# Altium integrated library Actel Axcelerator.IntLib: 162 symbols (part 1 of 42)
Pins are listed as number, name and electrical type; pins without a type are passive.

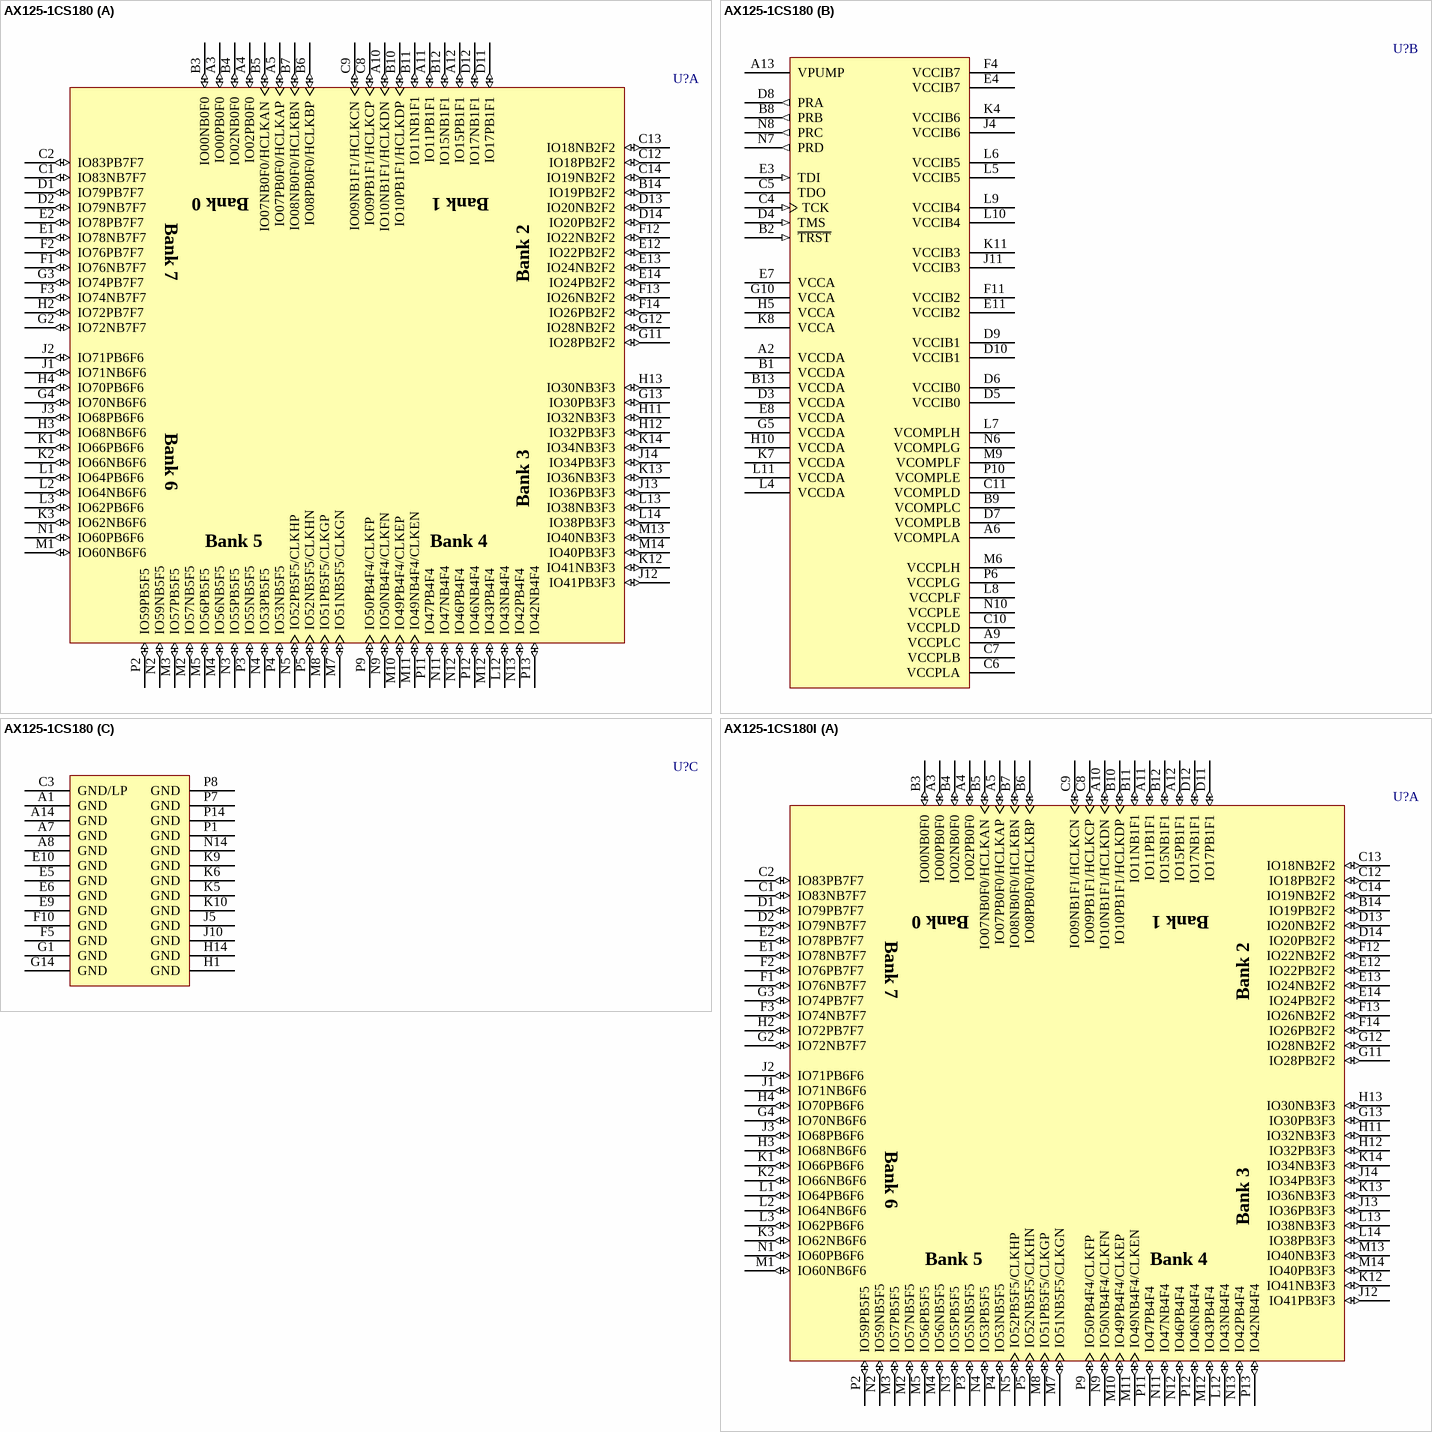
[diagram p0: symbols AX125-1CS180 to AX125-1CS180I]

## AX125-1CS180
designator U?
Axcelerator AX125 FPGA, 98 User I/Os, 180-Pin CSP, Speed Grade 1, Commercial Grade; DatasheetVersion: v2.8, Oct-2009; PackageVersion: ver11.2, Nov-2009; PackageReference: CS180; PackageDescription: 180-Ball Chip Scale Package (CS180); Code_JEDEC: MO-205-BF; ComponentLink1Description: Manufacturer URL; ComponentLink1URL: http://www.actel.com/; ComponentLink2Description: Axcelerator Datasheet; ComponentLink2URL: http://www.actel.com/documents/AX_DS.pdf; ComponentLink3Description: Package Mechanical Drawings; ComponentLink3URL: http://www.actel.com/documents/PckgMechDrwngs.pdf; ComponentLink4Description: Axcelerator Documents; ComponentLink4URL: http://www.actel.com/products/axcelerator/docs.aspx
footprint CS180 (BGA, 180-Leads, Body 13x13mm, Pitch 0.8mm)
part A pins: A3 IO00PB0F0 (io), A4 IO02PB0F0 (io), A5 IO07PB0F0/HCLKAP (io), A10 IO10NB1F1/HCLKDN (io), A11 IO11PB1F1 (io), A12 IO15PB1F1 (io), B3 IO00NB0F0 (io), B4 IO02NB0F0 (io), B5 IO07NB0F0/HCLKAN (io), B6 IO08PB0F0/HCLKBP (io), B7 IO08NB0F0/HCLKBN (io), B10 IO10PB1F1/HCLKDP (io), B11 IO11NB1F1 (io), B12 IO15NB1F1 (io), B14 IO19PB2F2 (io), C1 IO83NB7F7 (io), C2 IO83PB7F7 (io), C8 IO09PB1F1/HCLKCP (io), C9 IO09NB1F1/HCLKCN (io), C12 IO18PB2F2 (io), C13 IO18NB2F2 (io), C14 IO19NB2F2 (io), D1 IO79PB7F7 (io), D2 IO79NB7F7 (io), D11 IO17PB1F1 (io), D12 IO17NB1F1 (io), D13 IO20NB2F2 (io), D14 IO20PB2F2 (io), E1 IO78NB7F7 (io), E2 IO78PB7F7 (io), E12 IO22PB2F2 (io), E13 IO24NB2F2 (io), E14 IO24PB2F2 (io), F1 IO76NB7F7 (io), F2 IO76PB7F7 (io), F3 IO74NB7F7 (io), F12 IO22NB2F2 (io), F13 IO26NB2F2 (io), F14 IO26PB2F2 (io), G2 IO72NB7F7 (io), G3 IO74PB7F7 (io), G4 IO70NB6F6 (io), G11 IO28PB2F2 (io), G12 IO28NB2F2 (io), G13 IO30PB3F3 (io), H2 IO72PB7F7 (io), H3 IO68NB6F6 (io), H4 IO70PB6F6 (io), H11 IO32NB3F3 (io), H12 IO32PB3F3 (io), H13 IO30NB3F3 (io), J1 IO71NB6F6 (io), J2 IO71PB6F6 (io), J3 IO68PB6F6 (io), J12 IO41PB3F3 (io), J13 IO36PB3F3 (io), J14 IO34PB3F3 (io), K1 IO66PB6F6 (io), K2 IO66NB6F6 (io), K3 IO62NB6F6 (io), K12 IO41NB3F3 (io), K13 IO36NB3F3 (io), K14 IO34NB3F3 (io), L1 IO64PB6F6 (io), L2 IO64NB6F6 (io), L3 IO62PB6F6 (io), L12 IO43NB4F4 (io), L13 IO38NB3F3 (io), L14 IO38PB3F3 (io), M1 IO60NB6F6 (io), M2 IO57NB5F5 (io), M3 IO57PB5F5 (io), M4 IO56NB5F5 (io), M5 IO56PB5F5 (io), M7 IO51NB5F5/CLKGN (io), M8 IO51PB5F5/CLKGP (io), M10 IO49PB4F4/CLKEP (io), M11 IO49NB4F4/CLKEN (io), M12 IO43PB4F4 (io), M13 IO40NB3F3 (io), M14 IO40PB3F3 (io), N1 IO60PB6F6 (io), N2 IO59NB5F5 (io), N3 IO55PB5F5 (io), N4 IO53PB5F5 (io), N5 IO52PB5F5/CLKHP (io), N9 IO50NB4F4/CLKFN (io), N11 IO47NB4F4 (io), N12 IO46PB4F4 (io), N13 IO42PB4F4 (io), P2 IO59PB5F5 (io), P3 IO55NB5F5 (io), P4 IO53NB5F5 (io), P5 IO52NB5F5/CLKHN (io), P9 IO50PB4F4/CLKFP (io), P11 IO47PB4F4 (io), P12 IO46NB4F4 (io), P13 IO42NB4F4 (io)
part B pins: A2 VCCDA (power), A6 VCOMPLA (power), A9 VCCPLC (power), A13 VPUMP (power), B1 VCCDA (power), B2 ~{TRST} (in), B8 PRB (out), B9 VCOMPLC (power), B13 VCCDA (power), C4 TCK (in), C5 TDO (hiz), C6 VCCPLA (power), C7 VCCPLB (power), C10 VCCPLD (power), C11 VCOMPLD (power), D3 VCCDA (power), D4 TMS (in), D5 VCCIB0 (power), D6 VCCIB0 (power), D7 VCOMPLB (power), D8 PRA (out), D9 VCCIB1 (power), D10 VCCIB1 (power), E3 TDI (in), E4 VCCIB7 (power), E7 VCCA (power), E8 VCCDA (power), E11 VCCIB2 (power), F4 VCCIB7 (power), F11 VCCIB2 (power), G5 VCCDA (power), G10 VCCA (power), H5 VCCA (power), H10 VCCDA (power), J4 VCCIB6 (power), J11 VCCIB3 (power), K4 VCCIB6 (power), K7 VCCDA (power), K8 VCCA (power), K11 VCCIB3 (power), L4 VCCDA (power), L5 VCCIB5 (power), L6 VCCIB5 (power), L7 VCOMPLH (power), L8 VCCPLF (power), L9 VCCIB4 (power), L10 VCCIB4 (power), L11 VCCDA (power), M6 VCCPLH (power), M9 VCOMPLF (power), N6 VCOMPLG (power), N7 PRD (out), N8 PRC (out), N10 VCCPLE (power), P6 VCCPLG (power), P10 VCOMPLE (power)
part C pins: A1 GND (power), A7 GND (power), A8 GND (power), A14 GND (power), C3 GND/LP (power), E5 GND (power), E6 GND (power), E9 GND (power), E10 GND (power), F5 GND (power), F10 GND (power), G1 GND (power), G14 GND (power), H1 GND (power), H14 GND (power), J5 GND (power), J10 GND (power), K5 GND (power), K6 GND (power), K9 GND (power), K10 GND (power), N14 GND (power), P1 GND (power), P7 GND (power), P8 GND (power), P14 GND (power)
part A text: Bank 0; Bank 1; Bank 7; Bank 2; Bank 6; Bank 3; Bank 5; Bank 4

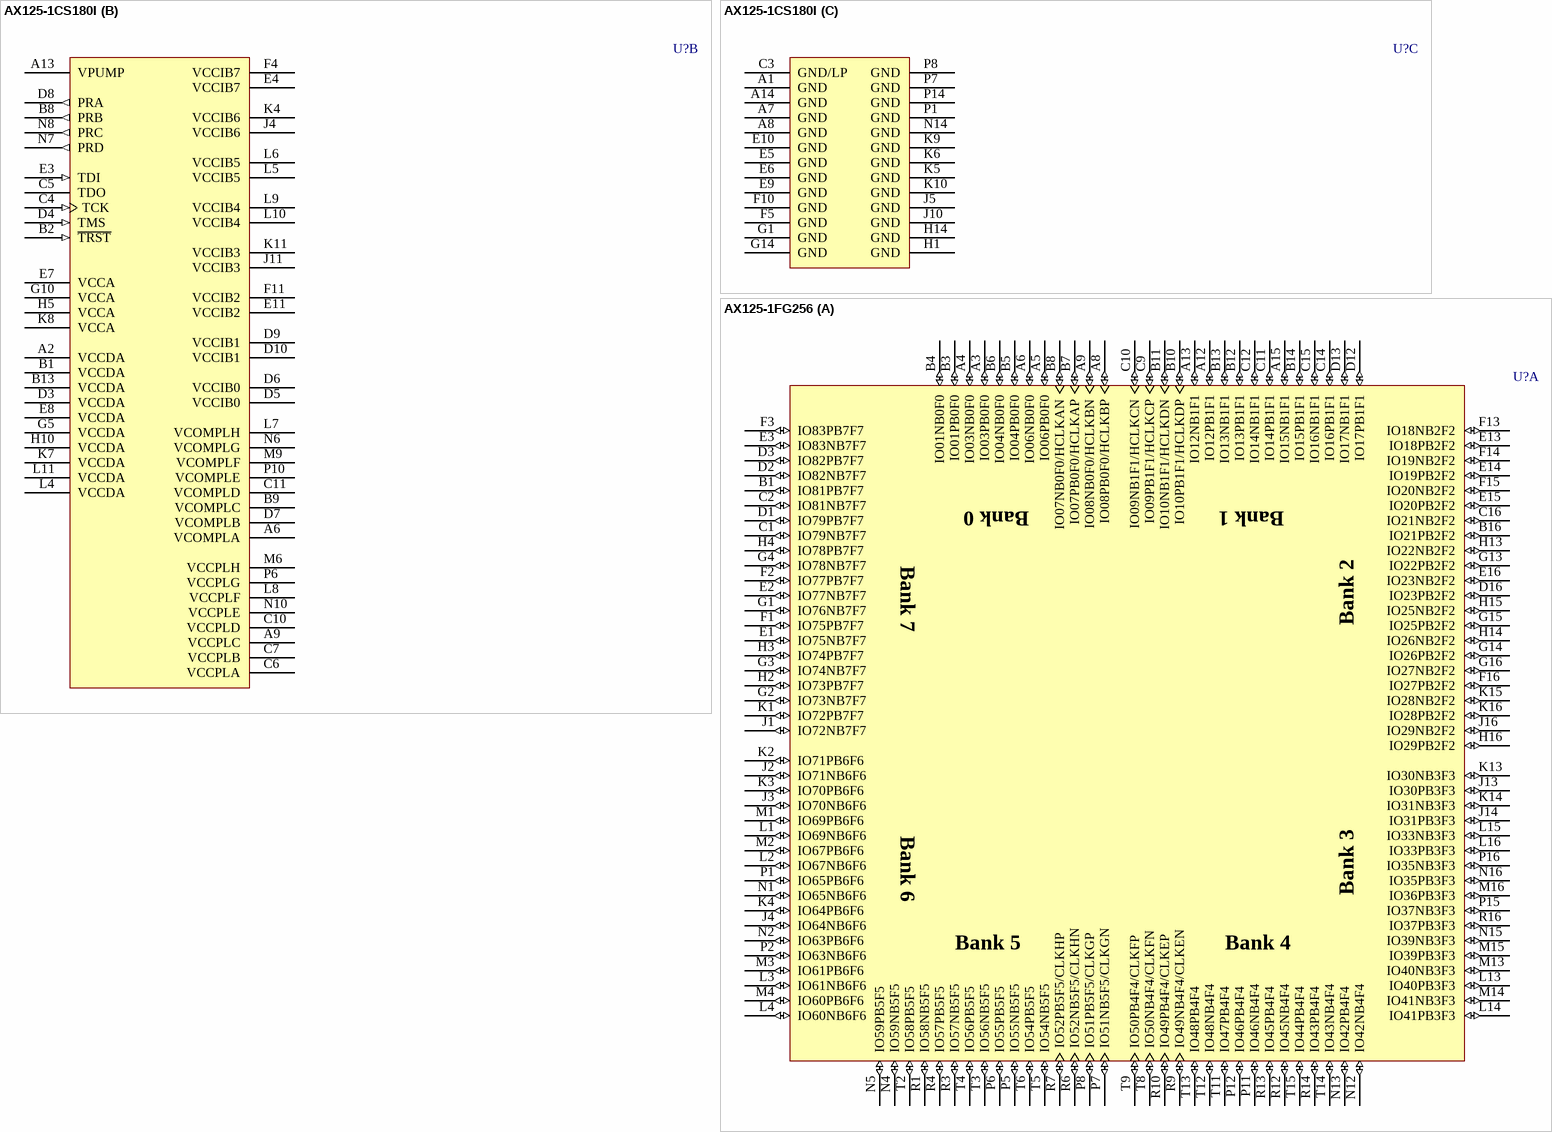
[diagram p1: symbols AX125-1CS180I to AX125-1FG256]

## AX125-1CS180I
designator U?
Axcelerator AX125 FPGA, 98 User I/Os, 180-Pin CSP, Speed Grade 1, Industrial Grade; DatasheetVersion: v2.8, Oct-2009; PackageVersion: ver11.2, Nov-2009; PackageReference: CS180; PackageDescription: 180-Ball Chip Scale Package (CS180); Code_JEDEC: MO-205-BF; ComponentLink1Description: Manufacturer URL; ComponentLink1URL: http://www.actel.com/; ComponentLink2Description: Axcelerator Datasheet; ComponentLink2URL: http://www.actel.com/documents/AX_DS.pdf; ComponentLink3Description: Package Mechanical Drawings; ComponentLink3URL: http://www.actel.com/documents/PckgMechDrwngs.pdf; ComponentLink4Description: Axcelerator Documents; ComponentLink4URL: http://www.actel.com/products/axcelerator/docs.aspx
footprint CS180 (BGA, 180-Leads, Body 13x13mm, Pitch 0.8mm)
part A pins: A3 IO00PB0F0 (io), A4 IO02PB0F0 (io), A5 IO07PB0F0/HCLKAP (io), A10 IO10NB1F1/HCLKDN (io), A11 IO11PB1F1 (io), A12 IO15PB1F1 (io), B3 IO00NB0F0 (io), B4 IO02NB0F0 (io), B5 IO07NB0F0/HCLKAN (io), B6 IO08PB0F0/HCLKBP (io), B7 IO08NB0F0/HCLKBN (io), B10 IO10PB1F1/HCLKDP (io), B11 IO11NB1F1 (io), B12 IO15NB1F1 (io), B14 IO19PB2F2 (io), C1 IO83NB7F7 (io), C2 IO83PB7F7 (io), C8 IO09PB1F1/HCLKCP (io), C9 IO09NB1F1/HCLKCN (io), C12 IO18PB2F2 (io), C13 IO18NB2F2 (io), C14 IO19NB2F2 (io), D1 IO79PB7F7 (io), D2 IO79NB7F7 (io), D11 IO17PB1F1 (io), D12 IO17NB1F1 (io), D13 IO20NB2F2 (io), D14 IO20PB2F2 (io), E1 IO78NB7F7 (io), E2 IO78PB7F7 (io), E12 IO22PB2F2 (io), E13 IO24NB2F2 (io), E14 IO24PB2F2 (io), F1 IO76NB7F7 (io), F2 IO76PB7F7 (io), F3 IO74NB7F7 (io), F12 IO22NB2F2 (io), F13 IO26NB2F2 (io), F14 IO26PB2F2 (io), G2 IO72NB7F7 (io), G3 IO74PB7F7 (io), G4 IO70NB6F6 (io), G11 IO28PB2F2 (io), G12 IO28NB2F2 (io), G13 IO30PB3F3 (io), H2 IO72PB7F7 (io), H3 IO68NB6F6 (io), H4 IO70PB6F6 (io), H11 IO32NB3F3 (io), H12 IO32PB3F3 (io), H13 IO30NB3F3 (io), J1 IO71NB6F6 (io), J2 IO71PB6F6 (io), J3 IO68PB6F6 (io), J12 IO41PB3F3 (io), J13 IO36PB3F3 (io), J14 IO34PB3F3 (io), K1 IO66PB6F6 (io), K2 IO66NB6F6 (io), K3 IO62NB6F6 (io), K12 IO41NB3F3 (io), K13 IO36NB3F3 (io), K14 IO34NB3F3 (io), L1 IO64PB6F6 (io), L2 IO64NB6F6 (io), L3 IO62PB6F6 (io), L12 IO43NB4F4 (io), L13 IO38NB3F3 (io), L14 IO38PB3F3 (io), M1 IO60NB6F6 (io), M2 IO57NB5F5 (io), M3 IO57PB5F5 (io), M4 IO56NB5F5 (io), M5 IO56PB5F5 (io), M7 IO51NB5F5/CLKGN (io), M8 IO51PB5F5/CLKGP (io), M10 IO49PB4F4/CLKEP (io), M11 IO49NB4F4/CLKEN (io), M12 IO43PB4F4 (io), M13 IO40NB3F3 (io), M14 IO40PB3F3 (io), N1 IO60PB6F6 (io), N2 IO59NB5F5 (io), N3 IO55PB5F5 (io), N4 IO53PB5F5 (io), N5 IO52PB5F5/CLKHP (io), N9 IO50NB4F4/CLKFN (io), N11 IO47NB4F4 (io), N12 IO46PB4F4 (io), N13 IO42PB4F4 (io), P2 IO59PB5F5 (io), P3 IO55NB5F5 (io), P4 IO53NB5F5 (io), P5 IO52NB5F5/CLKHN (io), P9 IO50PB4F4/CLKFP (io), P11 IO47PB4F4 (io), P12 IO46NB4F4 (io), P13 IO42NB4F4 (io)
part B pins: A2 VCCDA (power), A6 VCOMPLA (power), A9 VCCPLC (power), A13 VPUMP (power), B1 VCCDA (power), B2 ~{TRST} (in), B8 PRB (out), B9 VCOMPLC (power), B13 VCCDA (power), C4 TCK (in), C5 TDO (hiz), C6 VCCPLA (power), C7 VCCPLB (power), C10 VCCPLD (power), C11 VCOMPLD (power), D3 VCCDA (power), D4 TMS (in), D5 VCCIB0 (power), D6 VCCIB0 (power), D7 VCOMPLB (power), D8 PRA (out), D9 VCCIB1 (power), D10 VCCIB1 (power), E3 TDI (in), E4 VCCIB7 (power), E7 VCCA (power), E8 VCCDA (power), E11 VCCIB2 (power), F4 VCCIB7 (power), F11 VCCIB2 (power), G5 VCCDA (power), G10 VCCA (power), H5 VCCA (power), H10 VCCDA (power), J4 VCCIB6 (power), J11 VCCIB3 (power), K4 VCCIB6 (power), K7 VCCDA (power), K8 VCCA (power), K11 VCCIB3 (power), L4 VCCDA (power), L5 VCCIB5 (power), L6 VCCIB5 (power), L7 VCOMPLH (power), L8 VCCPLF (power), L9 VCCIB4 (power), L10 VCCIB4 (power), L11 VCCDA (power), M6 VCCPLH (power), M9 VCOMPLF (power), N6 VCOMPLG (power), N7 PRD (out), N8 PRC (out), N10 VCCPLE (power), P6 VCCPLG (power), P10 VCOMPLE (power)
part C pins: A1 GND (power), A7 GND (power), A8 GND (power), A14 GND (power), C3 GND/LP (power), E5 GND (power), E6 GND (power), E9 GND (power), E10 GND (power), F5 GND (power), F10 GND (power), G1 GND (power), G14 GND (power), H1 GND (power), H14 GND (power), J5 GND (power), J10 GND (power), K5 GND (power), K6 GND (power), K9 GND (power), K10 GND (power), N14 GND (power), P1 GND (power), P7 GND (power), P8 GND (power), P14 GND (power)
part A text: Bank 0; Bank 1; Bank 7; Bank 2; Bank 6; Bank 3; Bank 5; Bank 4

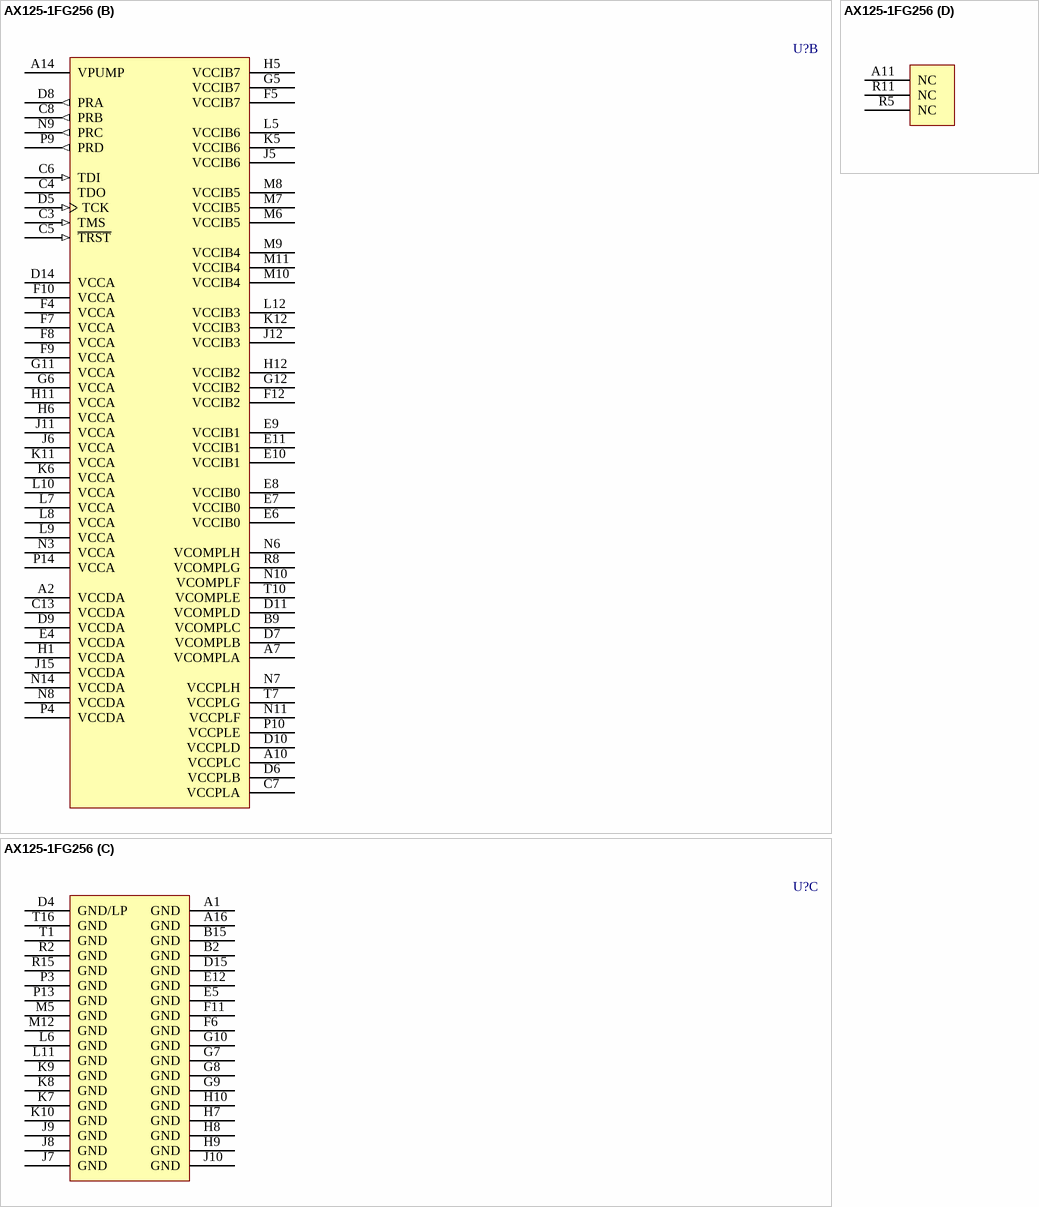
[diagram p2: symbol AX125-1FG256]

## AX125-1FG256
designator U?
Axcelerator AX125 FPGA, 138 User I/Os, 256-Pin FBGA, Speed Grade 1, Commercial Grade; DatasheetVersion: v2.8, Oct-2009; PackageVersion: rev39, Aug-2010; PackageReference: FG256; PackageDescription: 256-Ball Fine Pitch Plastic Ball Grid Array 1.00 mm Pitch (FG256); Code_JEDEC: MO-192-DAF-1; ComponentLink1Description: Manufacturer URL; ComponentLink1URL: http://www.actel.com/; ComponentLink2Description: Axcelerator Datasheet; ComponentLink2URL: http://www.actel.com/documents/AX_DS.pdf; ComponentLink3Description: Package Mechanical Drawings; ComponentLink3URL: http://www.actel.com/documents/PckgMechDrwngs.pdf; ComponentLink4Description: Axcelerator Documents; ComponentLink4URL: http://www.actel.com/products/axcelerator/docs.aspx
footprint FG256 (BGA, 256-Leads, Body 17x17mm, Pitch 1mm)
part A pins: A3 IO03PB0F0 (io), A4 IO03NB0F0 (io), A5 IO06PB0F0 (io), A6 IO06NB0F0 (io), A8 IO08PB0F0/HCLKBP (io), A9 IO08NB0F0/HCLKBN (io), A12 IO12PB1F1 (io), A13 IO12NB1F1 (io), A15 IO15NB1F1 (io), B1 IO81PB7F7 (io), B3 IO01PB0F0 (io), B4 IO01NB0F0 (io), B5 IO04PB0F0 (io), B6 IO04NB0F0 (io), B7 IO07PB0F0/HCLKAP (io), B8 IO07NB0F0/HCLKAN (io), B10 IO10PB1F1/HCLKDP (io), B11 IO10NB1F1/HCLKDN (io), B12 IO13PB1F1 (io), B13 IO13NB1F1 (io), B14 IO15PB1F1 (io), B16 IO21PB2F2 (io), C1 IO79NB7F7 (io), C2 IO81NB7F7 (io), C9 IO09PB1F1/HCLKCP (io), C10 IO09NB1F1/HCLKCN (io), C11 IO14PB1F1 (io), C12 IO14NB1F1 (io), C14 IO16PB1F1 (io), C15 IO16NB1F1 (io), C16 IO21NB2F2 (io), D1 IO79PB7F7 (io), D2 IO82NB7F7 (io), D3 IO82PB7F7 (io), D12 IO17PB1F1 (io), D13 IO17NB1F1 (io), D16 IO23PB2F2 (io), E1 IO75NB7F7 (io), E2 IO77NB7F7 (io), E3 IO83NB7F7 (io), E13 IO18PB2F2 (io), E14 IO19PB2F2 (io), E15 IO20PB2F2 (io), E16 IO23NB2F2 (io), F1 IO75PB7F7 (io), F2 IO77PB7F7 (io), F3 IO83PB7F7 (io), F13 IO18NB2F2 (io), F14 IO19NB2F2 (io), F15 IO20NB2F2 (io), F16 IO27PB2F2 (io), G1 IO76NB7F7 (io), G2 IO73NB7F7 (io), G3 IO74NB7F7 (io), G4 IO78NB7F7 (io), G13 IO22PB2F2 (io), G14 IO26PB2F2 (io), G15 IO25PB2F2 (io), G16 IO27NB2F2 (io), H2 IO73PB7F7 (io), H3 IO74PB7F7 (io), H4 IO78PB7F7 (io), H13 IO22NB2F2 (io), H14 IO26NB2F2 (io), H15 IO25NB2F2 (io), H16 IO29PB2F2 (io), J1 IO72NB7F7 (io), J2 IO71NB6F6 (io), J3 IO70NB6F6 (io), J4 IO64NB6F6 (io), J13 IO30PB3F3 (io), J14 IO31PB3F3 (io), J16 IO29NB2F2 (io), K1 IO72PB7F7 (io), K2 IO71PB6F6 (io), K3 IO70PB6F6 (io), K4 IO64PB6F6 (io), K13 IO30NB3F3 (io), K14 IO31NB3F3 (io), K15 IO28NB2F2 (io), K16 IO28PB2F2 (io), L1 IO69NB6F6 (io), L2 IO67NB6F6 (io), L3 IO61NB6F6 (io), L4 IO60NB6F6 (io), L13 IO40PB3F3 (io), L14 IO41PB3F3 (io), L15 IO33NB3F3 (io), L16 IO33PB3F3 (io), M1 IO69PB6F6 (io), M2 IO67PB6F6 (io), M3 IO61PB6F6 (io), M4 IO60PB6F6 (io), M13 IO40NB3F3 (io), M14 IO41NB3F3 (io), M15 IO39PB3F3 (io), M16 IO36PB3F3 (io), N1 IO65NB6F6 (io), N2 IO63PB6F6 (io), N4 IO59NB5F5 (io), N5 IO59PB5F5 (io), N12 IO42NB4F4 (io), N13 IO42PB4F4 (io), N15 IO39NB3F3 (io), N16 IO35PB3F3 (io), P1 IO65PB6F6 (io), P2 IO63NB6F6 (io), P5 IO55NB5F5 (io), P6 IO55PB5F5 (io), P7 IO51NB5F5/CLKGN (io), P8 IO51PB5F5/CLKGP (io), P11 IO46NB4F4 (io), P12 IO46PB4F4 (io), P15 IO37NB3F3 (io), P16 IO35NB3F3 (io), R1 IO58NB5F5 (io), R3 IO57NB5F5 (io), R4 IO57PB5F5 (io), R6 IO52NB5F5/CLKHN (io), R7 IO52PB5F5/CLKHP (io), R9 IO49NB4F4/CLKEN (io), R10 IO49PB4F4/CLKEP (io), R12 IO45NB4F4 (io), R13 IO45PB4F4 (io), R14 IO43PB4F4 (io), R16 IO37PB3F3 (io), T2 IO58PB5F5 (io), T3 IO56NB5F5 (io), T4 IO56PB5F5 (io), T5 IO54NB5F5 (io), T6 IO54PB5F5 (io), T8 IO50NB4F4/CLKFN (io), T9 IO50PB4F4/CLKFP (io), T11 IO47PB4F4 (io), T12 IO48NB4F4 (io), T13 IO48PB4F4 (io), T14 IO43NB4F4 (io), T15 IO44PB4F4 (io)
part B pins: A2 VCCDA (power), A7 VCOMPLA (power), A10 VCCPLC (power), A14 VPUMP (power), B9 VCOMPLC (power), C3 TMS (in), C4 TDO (hiz), C5 ~{TRST} (in), C6 TDI (in), C7 VCCPLA (power), C8 PRB (out), C13 VCCDA (power), D5 TCK (in), D6 VCCPLB (power), D7 VCOMPLB (power), D8 PRA (out), D9 VCCDA (power), D10 VCCPLD (power), D11 VCOMPLD (power), D14 VCCA (power), E4 VCCDA (power), E6 VCCIB0 (power), E7 VCCIB0 (power), E8 VCCIB0 (power), E9 VCCIB1 (power), E10 VCCIB1 (power), E11 VCCIB1 (power), F4 VCCA (power), F5 VCCIB7 (power), F7 VCCA (power), F8 VCCA (power), F9 VCCA (power), F10 VCCA (power), F12 VCCIB2 (power), G5 VCCIB7 (power), G6 VCCA (power), G11 VCCA (power), G12 VCCIB2 (power), H1 VCCDA (power), H5 VCCIB7 (power), H6 VCCA (power), H11 VCCA (power), H12 VCCIB2 (power), J5 VCCIB6 (power), J6 VCCA (power), J11 VCCA (power), J12 VCCIB3 (power), J15 VCCDA (power), K5 VCCIB6 (power), K6 VCCA (power), K11 VCCA (power), K12 VCCIB3 (power), L5 VCCIB6 (power), L7 VCCA (power), L8 VCCA (power), L9 VCCA (power), L10 VCCA (power), L12 VCCIB3 (power), M6 VCCIB5 (power), M7 VCCIB5 (power), M8 VCCIB5 (power), M9 VCCIB4 (power), M10 VCCIB4 (power), M11 VCCIB4 (power), N3 VCCA (power), N6 VCOMPLH (power), N7 VCCPLH (power), N8 VCCDA (power), N9 PRC (out), N10 VCOMPLF (power), N11 VCCPLF (power), N14 VCCDA (power), P4 VCCDA (power), P9 PRD (out), P10 VCCPLE (power), P14 VCCA (power), R8 VCOMPLG (power), T7 VCCPLG (power), T10 VCOMPLE (power)
part C pins: A1 GND (power), A16 GND (power), B2 GND (power), B15 GND (power), D4 GND/LP (power), D15 GND (power), E5 GND (power), E12 GND (power), F6 GND (power), F11 GND (power), G7 GND (power), G8 GND (power), G9 GND (power), G10 GND (power), H7 GND (power), H8 GND (power), H9 GND (power), H10 GND (power), J7 GND (power), J8 GND (power), J9 GND (power), J10 GND (power), K7 GND (power), K8 GND (power), K9 GND (power), K10 GND (power), L6 GND (power), L11 GND (power), M5 GND (power), M12 GND (power), P3 GND (power), P13 GND (power), R2 GND (power), R15 GND (power), T1 GND (power), T16 GND (power)
part D pins: A11 NC, R5 NC, R11 NC
part A text: Bank 0; Bank 1; Bank 7; Bank 2; Bank 6; Bank 3; Bank 5; Bank 4

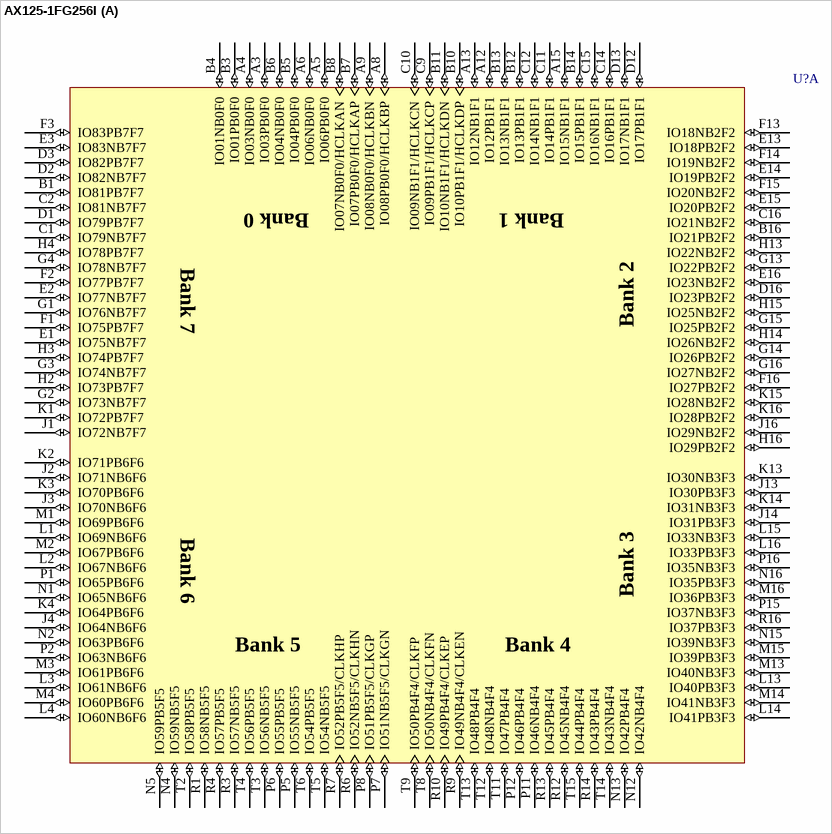
[diagram p3: symbol AX125-1FG256I]

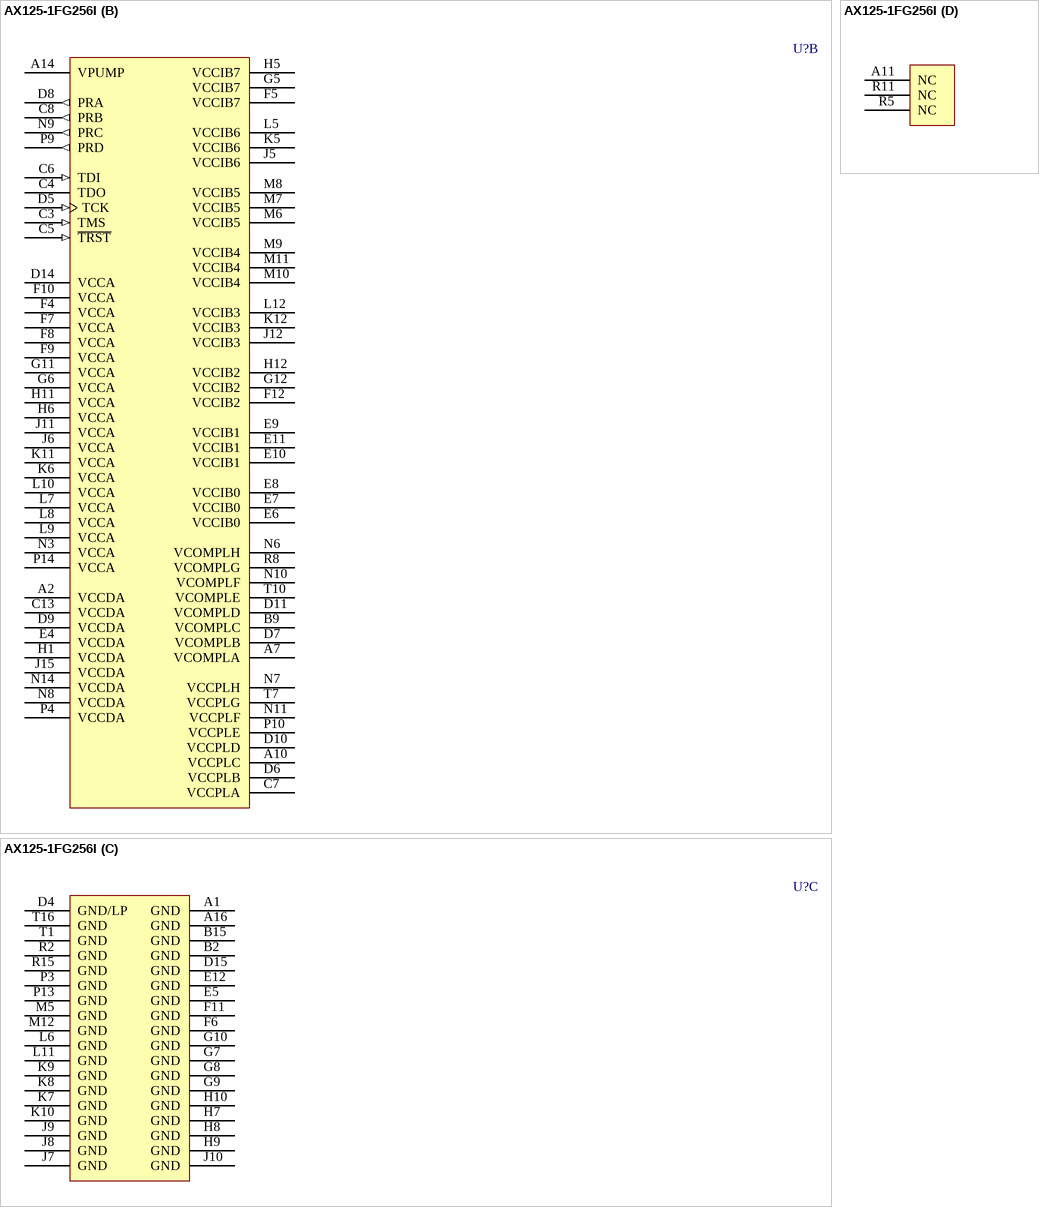
[diagram p4: symbol AX125-1FG256I]

## AX125-1FG256I
designator U?
Axcelerator AX125 FPGA, 138 User I/Os, 256-Pin FBGA, Speed Grade 1, Industrial Grade; DatasheetVersion: v2.8, Oct-2009; PackageVersion: rev39, Aug-2010; PackageReference: FG256; PackageDescription: 256-Ball Fine Pitch Plastic Ball Grid Array 1.00 mm Pitch (FG256); Code_JEDEC: MO-192-DAF-1; ComponentLink1Description: Manufacturer URL; ComponentLink1URL: http://www.actel.com/; ComponentLink2Description: Axcelerator Datasheet; ComponentLink2URL: http://www.actel.com/documents/AX_DS.pdf; ComponentLink3Description: Package Mechanical Drawings; ComponentLink3URL: http://www.actel.com/documents/PckgMechDrwngs.pdf; ComponentLink4Description: Axcelerator Documents; ComponentLink4URL: http://www.actel.com/products/axcelerator/docs.aspx
footprint FG256 (BGA, 256-Leads, Body 17x17mm, Pitch 1mm)
part A pins: A3 IO03PB0F0 (io), A4 IO03NB0F0 (io), A5 IO06PB0F0 (io), A6 IO06NB0F0 (io), A8 IO08PB0F0/HCLKBP (io), A9 IO08NB0F0/HCLKBN (io), A12 IO12PB1F1 (io), A13 IO12NB1F1 (io), A15 IO15NB1F1 (io), B1 IO81PB7F7 (io), B3 IO01PB0F0 (io), B4 IO01NB0F0 (io), B5 IO04PB0F0 (io), B6 IO04NB0F0 (io), B7 IO07PB0F0/HCLKAP (io), B8 IO07NB0F0/HCLKAN (io), B10 IO10PB1F1/HCLKDP (io), B11 IO10NB1F1/HCLKDN (io), B12 IO13PB1F1 (io), B13 IO13NB1F1 (io), B14 IO15PB1F1 (io), B16 IO21PB2F2 (io), C1 IO79NB7F7 (io), C2 IO81NB7F7 (io), C9 IO09PB1F1/HCLKCP (io), C10 IO09NB1F1/HCLKCN (io), C11 IO14PB1F1 (io), C12 IO14NB1F1 (io), C14 IO16PB1F1 (io), C15 IO16NB1F1 (io), C16 IO21NB2F2 (io), D1 IO79PB7F7 (io), D2 IO82NB7F7 (io), D3 IO82PB7F7 (io), D12 IO17PB1F1 (io), D13 IO17NB1F1 (io), D16 IO23PB2F2 (io), E1 IO75NB7F7 (io), E2 IO77NB7F7 (io), E3 IO83NB7F7 (io), E13 IO18PB2F2 (io), E14 IO19PB2F2 (io), E15 IO20PB2F2 (io), E16 IO23NB2F2 (io), F1 IO75PB7F7 (io), F2 IO77PB7F7 (io), F3 IO83PB7F7 (io), F13 IO18NB2F2 (io), F14 IO19NB2F2 (io), F15 IO20NB2F2 (io), F16 IO27PB2F2 (io), G1 IO76NB7F7 (io), G2 IO73NB7F7 (io), G3 IO74NB7F7 (io), G4 IO78NB7F7 (io), G13 IO22PB2F2 (io), G14 IO26PB2F2 (io), G15 IO25PB2F2 (io), G16 IO27NB2F2 (io), H2 IO73PB7F7 (io), H3 IO74PB7F7 (io), H4 IO78PB7F7 (io), H13 IO22NB2F2 (io), H14 IO26NB2F2 (io), H15 IO25NB2F2 (io), H16 IO29PB2F2 (io), J1 IO72NB7F7 (io), J2 IO71NB6F6 (io), J3 IO70NB6F6 (io), J4 IO64NB6F6 (io), J13 IO30PB3F3 (io), J14 IO31PB3F3 (io), J16 IO29NB2F2 (io), K1 IO72PB7F7 (io), K2 IO71PB6F6 (io), K3 IO70PB6F6 (io), K4 IO64PB6F6 (io), K13 IO30NB3F3 (io), K14 IO31NB3F3 (io), K15 IO28NB2F2 (io), K16 IO28PB2F2 (io), L1 IO69NB6F6 (io), L2 IO67NB6F6 (io), L3 IO61NB6F6 (io), L4 IO60NB6F6 (io), L13 IO40PB3F3 (io), L14 IO41PB3F3 (io), L15 IO33NB3F3 (io), L16 IO33PB3F3 (io), M1 IO69PB6F6 (io), M2 IO67PB6F6 (io), M3 IO61PB6F6 (io), M4 IO60PB6F6 (io), M13 IO40NB3F3 (io), M14 IO41NB3F3 (io), M15 IO39PB3F3 (io), M16 IO36PB3F3 (io), N1 IO65NB6F6 (io), N2 IO63PB6F6 (io), N4 IO59NB5F5 (io), N5 IO59PB5F5 (io), N12 IO42NB4F4 (io), N13 IO42PB4F4 (io), N15 IO39NB3F3 (io), N16 IO35PB3F3 (io), P1 IO65PB6F6 (io), P2 IO63NB6F6 (io), P5 IO55NB5F5 (io), P6 IO55PB5F5 (io), P7 IO51NB5F5/CLKGN (io), P8 IO51PB5F5/CLKGP (io), P11 IO46NB4F4 (io), P12 IO46PB4F4 (io), P15 IO37NB3F3 (io), P16 IO35NB3F3 (io), R1 IO58NB5F5 (io), R3 IO57NB5F5 (io), R4 IO57PB5F5 (io), R6 IO52NB5F5/CLKHN (io), R7 IO52PB5F5/CLKHP (io), R9 IO49NB4F4/CLKEN (io), R10 IO49PB4F4/CLKEP (io), R12 IO45NB4F4 (io), R13 IO45PB4F4 (io), R14 IO43PB4F4 (io), R16 IO37PB3F3 (io), T2 IO58PB5F5 (io), T3 IO56NB5F5 (io), T4 IO56PB5F5 (io), T5 IO54NB5F5 (io), T6 IO54PB5F5 (io), T8 IO50NB4F4/CLKFN (io), T9 IO50PB4F4/CLKFP (io), T11 IO47PB4F4 (io), T12 IO48NB4F4 (io), T13 IO48PB4F4 (io), T14 IO43NB4F4 (io), T15 IO44PB4F4 (io)
part B pins: A2 VCCDA (power), A7 VCOMPLA (power), A10 VCCPLC (power), A14 VPUMP (power), B9 VCOMPLC (power), C3 TMS (in), C4 TDO (hiz), C5 ~{TRST} (in), C6 TDI (in), C7 VCCPLA (power), C8 PRB (out), C13 VCCDA (power), D5 TCK (in), D6 VCCPLB (power), D7 VCOMPLB (power), D8 PRA (out), D9 VCCDA (power), D10 VCCPLD (power), D11 VCOMPLD (power), D14 VCCA (power), E4 VCCDA (power), E6 VCCIB0 (power), E7 VCCIB0 (power), E8 VCCIB0 (power), E9 VCCIB1 (power), E10 VCCIB1 (power), E11 VCCIB1 (power), F4 VCCA (power), F5 VCCIB7 (power), F7 VCCA (power), F8 VCCA (power), F9 VCCA (power), F10 VCCA (power), F12 VCCIB2 (power), G5 VCCIB7 (power), G6 VCCA (power), G11 VCCA (power), G12 VCCIB2 (power), H1 VCCDA (power), H5 VCCIB7 (power), H6 VCCA (power), H11 VCCA (power), H12 VCCIB2 (power), J5 VCCIB6 (power), J6 VCCA (power), J11 VCCA (power), J12 VCCIB3 (power), J15 VCCDA (power), K5 VCCIB6 (power), K6 VCCA (power), K11 VCCA (power), K12 VCCIB3 (power), L5 VCCIB6 (power), L7 VCCA (power), L8 VCCA (power), L9 VCCA (power), L10 VCCA (power), L12 VCCIB3 (power), M6 VCCIB5 (power), M7 VCCIB5 (power), M8 VCCIB5 (power), M9 VCCIB4 (power), M10 VCCIB4 (power), M11 VCCIB4 (power), N3 VCCA (power), N6 VCOMPLH (power), N7 VCCPLH (power), N8 VCCDA (power), N9 PRC (out), N10 VCOMPLF (power), N11 VCCPLF (power), N14 VCCDA (power), P4 VCCDA (power), P9 PRD (out), P10 VCCPLE (power), P14 VCCA (power), R8 VCOMPLG (power), T7 VCCPLG (power), T10 VCOMPLE (power)
part C pins: A1 GND (power), A16 GND (power), B2 GND (power), B15 GND (power), D4 GND/LP (power), D15 GND (power), E5 GND (power), E12 GND (power), F6 GND (power), F11 GND (power), G7 GND (power), G8 GND (power), G9 GND (power), G10 GND (power), H7 GND (power), H8 GND (power), H9 GND (power), H10 GND (power), J7 GND (power), J8 GND (power), J9 GND (power), J10 GND (power), K7 GND (power), K8 GND (power), K9 GND (power), K10 GND (power), L6 GND (power), L11 GND (power), M5 GND (power), M12 GND (power), P3 GND (power), P13 GND (power), R2 GND (power), R15 GND (power), T1 GND (power), T16 GND (power)
part D pins: A11 NC, R5 NC, R11 NC
part A text: Bank 0; Bank 1; Bank 7; Bank 2; Bank 6; Bank 3; Bank 5; Bank 4

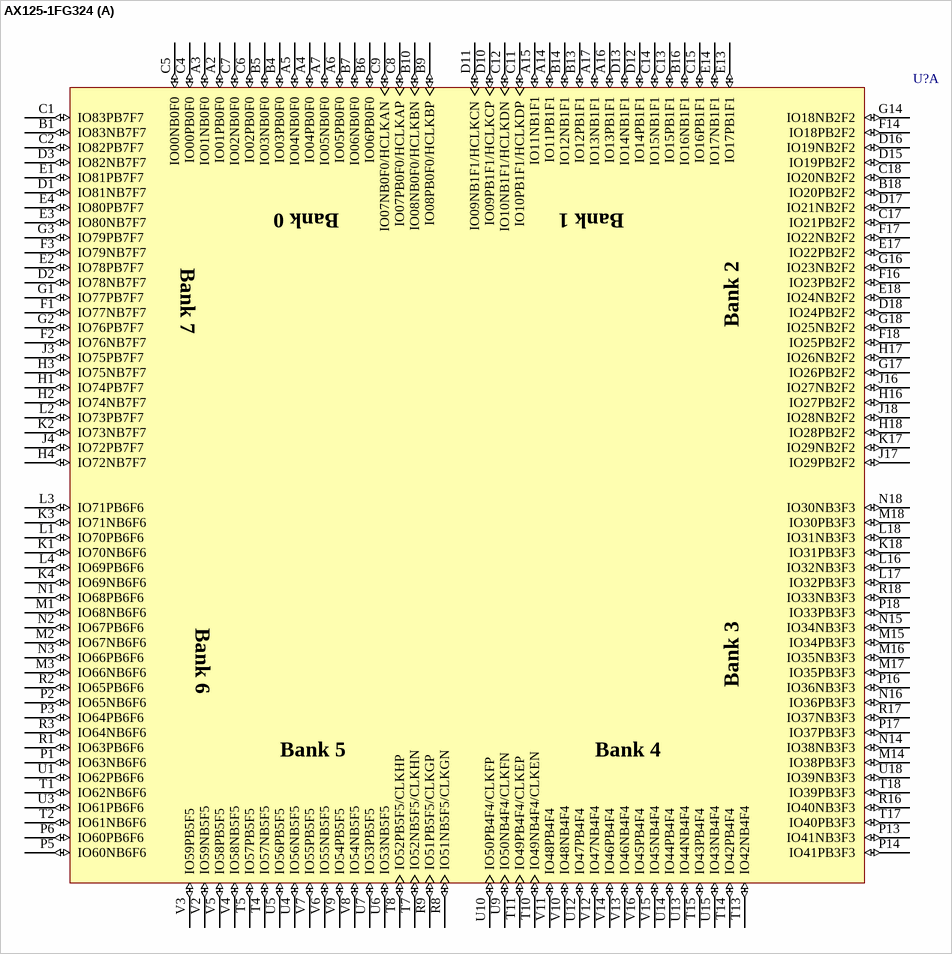
[diagram p5: symbol AX125-1FG324]

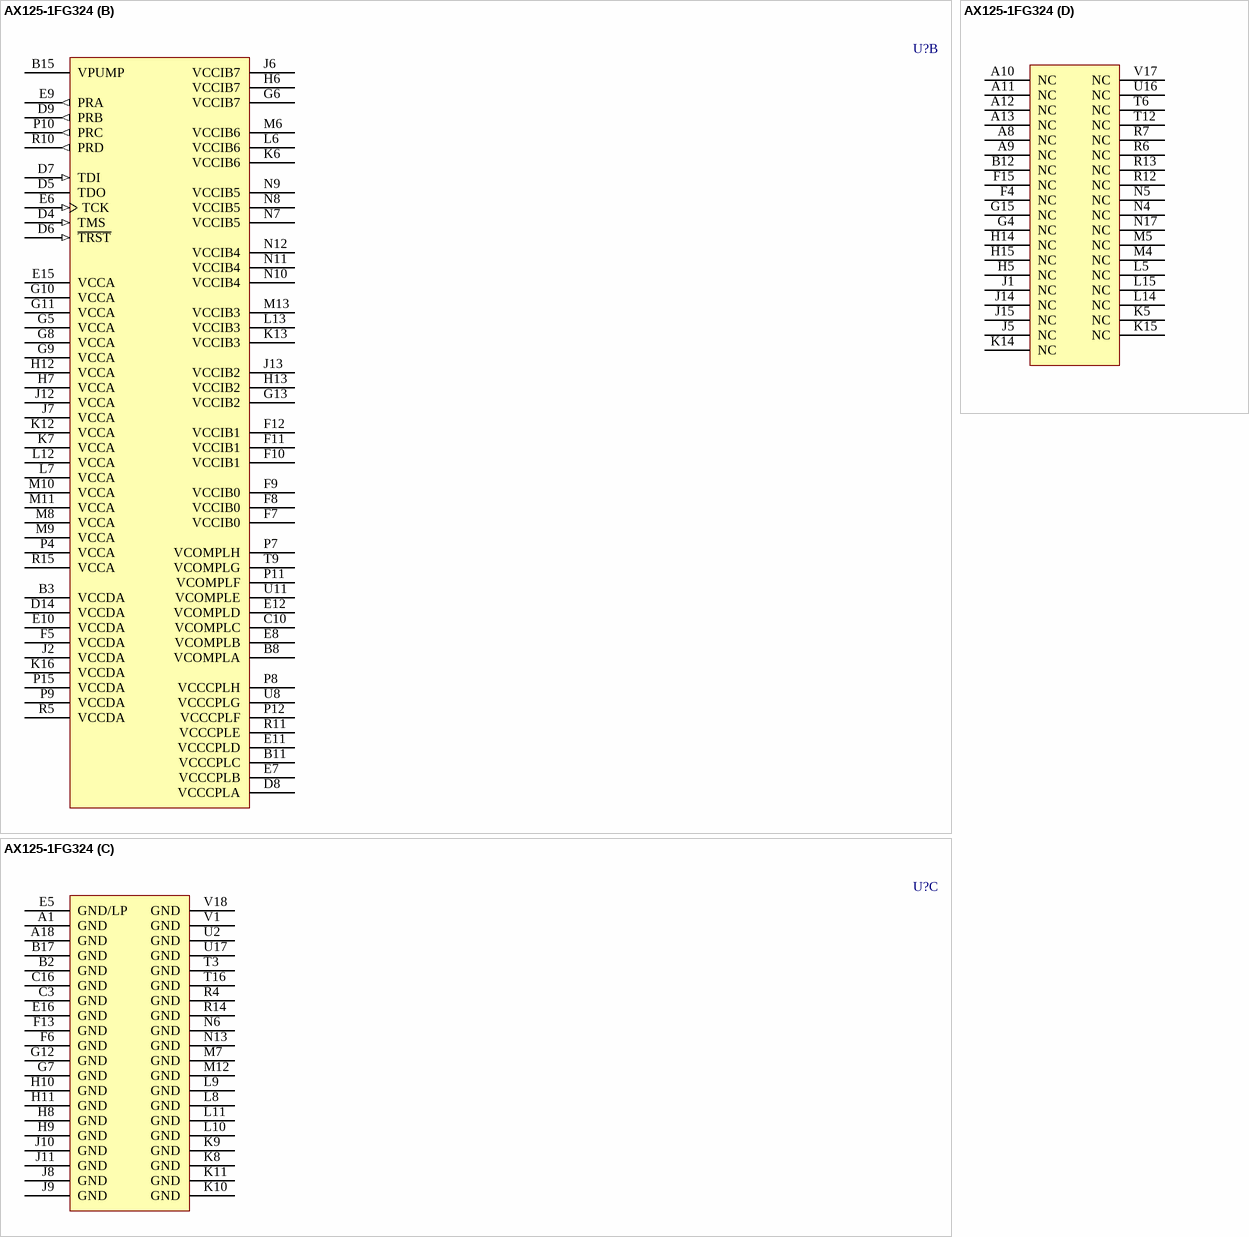
[diagram p6: symbol AX125-1FG324]

## AX125-1FG324
designator U?
Axcelerator AX125 FPGA, 168 User I/Os, 324-Pin FBGA, Speed Grade 1, Commercial Grade; DatasheetVersion: v2.8, Oct-2009; PackageVersion: rev39, Aug-2010; PackageReference: FG324; PackageDescription: 324-Ball Fine Pitch Plastic Ball Grid Array (FG324); Code_JEDEC: MS-034-AAG-1; Code_IPC: BGA100P18X18-324; ComponentLink1Description: Manufacturer URL; ComponentLink1URL: http://www.actel.com/; ComponentLink2Description: Axcelerator Datasheet; ComponentLink2URL: http://www.actel.com/documents/AX_DS.pdf; ComponentLink3Description: Package Mechanical Drawings; ComponentLink3URL: http://www.actel.com/documents/PckgMechDrwngs.pdf; ComponentLink4Description: Axcelerator Documents; ComponentLink4URL: http://www.actel.com/products/axcelerator/docs.aspx
footprint FG324 (BGA, 324-Leads, Body 19x19mm, Pitch 1mm)
part A pins: A2 IO01PB0F0 (io), A3 IO01NB0F0 (io), A4 IO04PB0F0 (io), A5 IO04NB0F0 (io), A6 IO05PB0F0 (io), A7 IO05NB0F0 (io), A14 IO11PB1F1 (io), A15 IO11NB1F1 (io), A16 IO13PB1F1 (io), A17 IO13NB1F1 (io), B1 IO83NB7F7 (io), B4 IO03PB0F0 (io), B5 IO03NB0F0 (io), B6 IO06PB0F0 (io), B7 IO06NB0F0 (io), B9 IO08PB0F0/HCLKBP (io), B10 IO08NB0F0/HCLKBN (io), B13 IO12PB1F1 (io), B14 IO12NB1F1 (io), B16 IO16NB1F1 (io), B18 IO20PB2F2 (io), C1 IO83PB7F7 (io), C2 IO82PB7F7 (io), C4 IO00PB0F0 (io), C5 IO00NB0F0 (io), C6 IO02PB0F0 (io), C7 IO02NB0F0 (io), C8 IO07PB0F0/HCLKAP (io), C9 IO07NB0F0/HCLKAN (io), C11 IO10PB1F1/HCLKDP (io), C12 IO10NB1F1/HCLKDN (io), C13 IO15PB1F1 (io), C14 IO15NB1F1 (io), C15 IO16PB1F1 (io), C17 IO21PB2F2 (io), C18 IO20NB2F2 (io), D1 IO81NB7F7 (io), D2 IO78NB7F7 (io), D3 IO82NB7F7 (io), D10 IO09PB1F1/HCLKCP (io), D11 IO09NB1F1/HCLKCN (io), D12 IO14PB1F1 (io), D13 IO14NB1F1 (io), D15 IO19PB2F2 (io), D16 IO19NB2F2 (io), D17 IO21NB2F2 (io), D18 IO24PB2F2 (io), E1 IO81PB7F7 (io), E2 IO78PB7F7 (io), E3 IO80NB7F7 (io), E4 IO80PB7F7 (io), E13 IO17PB1F1 (io), E14 IO17NB1F1 (io), E17 IO22PB2F2 (io), E18 IO24NB2F2 (io), F1 IO77NB7F7 (io), F2 IO76NB7F7 (io), F3 IO79NB7F7 (io), F14 IO18PB2F2 (io), F16 IO23PB2F2 (io), F17 IO22NB2F2 (io), F18 IO25PB2F2 (io), G1 IO77PB7F7 (io), G2 IO76PB7F7 (io), G3 IO79PB7F7 (io), G14 IO18NB2F2 (io), G16 IO23NB2F2 (io), G17 IO26PB2F2 (io), G18 IO25NB2F2 (io), H1 IO74PB7F7 (io), H2 IO74NB7F7 (io), H3 IO75NB7F7 (io), H4 IO72NB7F7 (io), H16 IO27PB2F2 (io), H17 IO26NB2F2 (io), H18 IO28PB2F2 (io), J3 IO75PB7F7 (io), J4 IO72PB7F7 (io), J16 IO27NB2F2 (io), J17 IO29PB2F2 (io), J18 IO28NB2F2 (io), K1 IO70NB6F6 (io), K2 IO73NB7F7 (io), K3 IO71NB6F6 (io), K4 IO69NB6F6 (io), K17 IO29NB2F2 (io), K18 IO31PB3F3 (io), L1 IO70PB6F6 (io), L2 IO73PB7F7 (io), L3 IO71PB6F6 (io), L4 IO69PB6F6 (io), L16 IO32NB3F3 (io), L17 IO32PB3F3 (io), L18 IO31NB3F3 (io), M1 IO68NB6F6 (io), M2 IO67NB6F6 (io), M3 IO66NB6F6 (io), M14 IO38PB3F3 (io), M15 IO34PB3F3 (io), M16 IO35NB3F3 (io), M17 IO35PB3F3 (io), M18 IO30PB3F3 (io), N1 IO68PB6F6 (io), N2 IO67PB6F6 (io), N3 IO66PB6F6 (io), N14 IO38NB3F3 (io), N15 IO34NB3F3 (io), N16 IO36PB3F3 (io), N18 IO30NB3F3 (io), P1 IO63NB6F6 (io), P2 IO65NB6F6 (io), P3 IO64PB6F6 (io), P5 IO60NB6F6 (io), P6 IO60PB6F6 (io), P13 IO41NB3F3 (io), P14 IO41PB3F3 (io), P16 IO36NB3F3 (io), P17 IO37PB3F3 (io), P18 IO33PB3F3 (io), R1 IO63PB6F6 (io), R2 IO65PB6F6 (io), R3 IO64NB6F6 (io), R8 IO51NB5F5/CLKGN (io), R9 IO51PB5F5/CLKGP (io), R16 IO40NB3F3 (io), R17 IO37NB3F3 (io), R18 IO33NB3F3 (io), T1 IO62NB6F6 (io), T2 IO61NB6F6 (io), T4 IO57NB5F5 (io), T5 IO57PB5F5 (io), T7 IO52NB5F5/CLKHN (io), T8 IO52PB5F5/CLKHP (io), T10 IO49NB4F4/CLKEN (io), T11 IO49PB4F4/CLKEP (io), T13 IO42NB4F4 (io), T14 IO42PB4F4 (io), T15 IO43PB4F4 (io), T17 IO40PB3F3 (io), T18 IO39PB3F3 (io), U1 IO62PB6F6 (io), U3 IO61PB6F6 (io), U4 IO56NB5F5 (io), U5 IO56PB5F5 (io), U6 IO53NB5F5 (io), U7 IO53PB5F5 (io), U9 IO50NB4F4/CLKFN (io), U10 IO50PB4F4/CLKFP (io), U12 IO47PB4F4 (io), U13 IO44NB4F4 (io), U14 IO44PB4F4 (io), U15 IO43NB4F4 (io), U18 IO39NB3F3 (io), V2 IO59NB5F5 (io), V3 IO59PB5F5 (io), V4 IO58NB5F5 (io), V5 IO58PB5F5 (io), V6 IO55NB5F5 (io), V7 IO55PB5F5 (io), V8 IO54NB5F5 (io), V9 IO54PB5F5 (io), V10 IO48NB4F4 (io), V11 IO48PB4F4 (io), V12 IO47NB4F4 (io), V13 IO46NB4F4 (io), V14 IO46PB4F4 (io), V15 IO45NB4F4 (io), V16 IO45PB4F4 (io)
part B pins: B3 VCCDA (power), B8 VCOMPLA (power), B11 VCCCPLC (power), B15 VPUMP (power), C10 VCOMPLC (power), D4 TMS (in), D5 TDO (hiz), D6 ~{TRST} (in), D7 TDI (in), D8 VCCCPLA (power), D9 PRB (out), D14 VCCDA (power), E6 TCK (in), E7 VCCCPLB (power), E8 VCOMPLB (power), E9 PRA (out), E10 VCCDA (power), E11 VCCCPLD (power), E12 VCOMPLD (power), E15 VCCA (power), F5 VCCDA (power), F7 VCCIB0 (power), F8 VCCIB0 (power), F9 VCCIB0 (power), F10 VCCIB1 (power), F11 VCCIB1 (power), F12 VCCIB1 (power), G5 VCCA (power), G6 VCCIB7 (power), G8 VCCA (power), G9 VCCA (power), G10 VCCA (power), G11 VCCA (power), G13 VCCIB2 (power), H6 VCCIB7 (power), H7 VCCA (power), H12 VCCA (power), H13 VCCIB2 (power), J2 VCCDA (power), J6 VCCIB7 (power), J7 VCCA (power), J12 VCCA (power), J13 VCCIB2 (power), K6 VCCIB6 (power), K7 VCCA (power), K12 VCCA (power), K13 VCCIB3 (power), K16 VCCDA (power), L6 VCCIB6 (power), L7 VCCA (power), L12 VCCA (power), L13 VCCIB3 (power), M6 VCCIB6 (power), M8 VCCA (power), M9 VCCA (power), M10 VCCA (power), M11 VCCA (power), M13 VCCIB3 (power), N7 VCCIB5 (power), N8 VCCIB5 (power), N9 VCCIB5 (power), N10 VCCIB4 (power), N11 VCCIB4 (power), N12 VCCIB4 (power), P4 VCCA (power), P7 VCOMPLH (power), P8 VCCCPLH (power), P9 VCCDA (power), P10 PRC (out), P11 VCOMPLF (power), P12 VCCCPLF (power), P15 VCCDA (power), R5 VCCDA (power), R10 PRD (out), R11 VCCCPLE (power), R15 VCCA (power), T9 VCOMPLG (power), U8 VCCCPLG (power), U11 VCOMPLE (power)
part C pins: A1 GND (power), A18 GND (power), B2 GND (power), B17 GND (power), C3 GND (power), C16 GND (power), E5 GND/LP (power), E16 GND (power), F6 GND (power), F13 GND (power), G7 GND (power), G12 GND (power), H8 GND (power), H9 GND (power), H10 GND (power), H11 GND (power), J8 GND (power), J9 GND (power), J10 GND (power), J11 GND (power), K8 GND (power), K9 GND (power), K10 GND (power), K11 GND (power), L8 GND (power), L9 GND (power), L10 GND (power), L11 GND (power), M7 GND (power), M12 GND (power), N6 GND (power), N13 GND (power), R4 GND (power), R14 GND (power), T3 GND (power), T16 GND (power), U2 GND (power), U17 GND (power), V1 GND (power), V18 GND (power)
part D pins: A8 NC, A9 NC, A10 NC, A11 NC, A12 NC, A13 NC, B12 NC, F4 NC, F15 NC, G4 NC, G15 NC, H5 NC, H14 NC, H15 NC, J1 NC, J5 NC, J14 NC, J15 NC, K5 NC, K14 NC, K15 NC, L5 NC, L14 NC, L15 NC, M4 NC, M5 NC, N4 NC, N5 NC, N17 NC, R6 NC, R7 NC, R12 NC, R13 NC, T6 NC, T12 NC, U16 NC, V17 NC
part A text: Bank 0; Bank 1; Bank 7; Bank 2; Bank 6; Bank 3; Bank 5; Bank 4

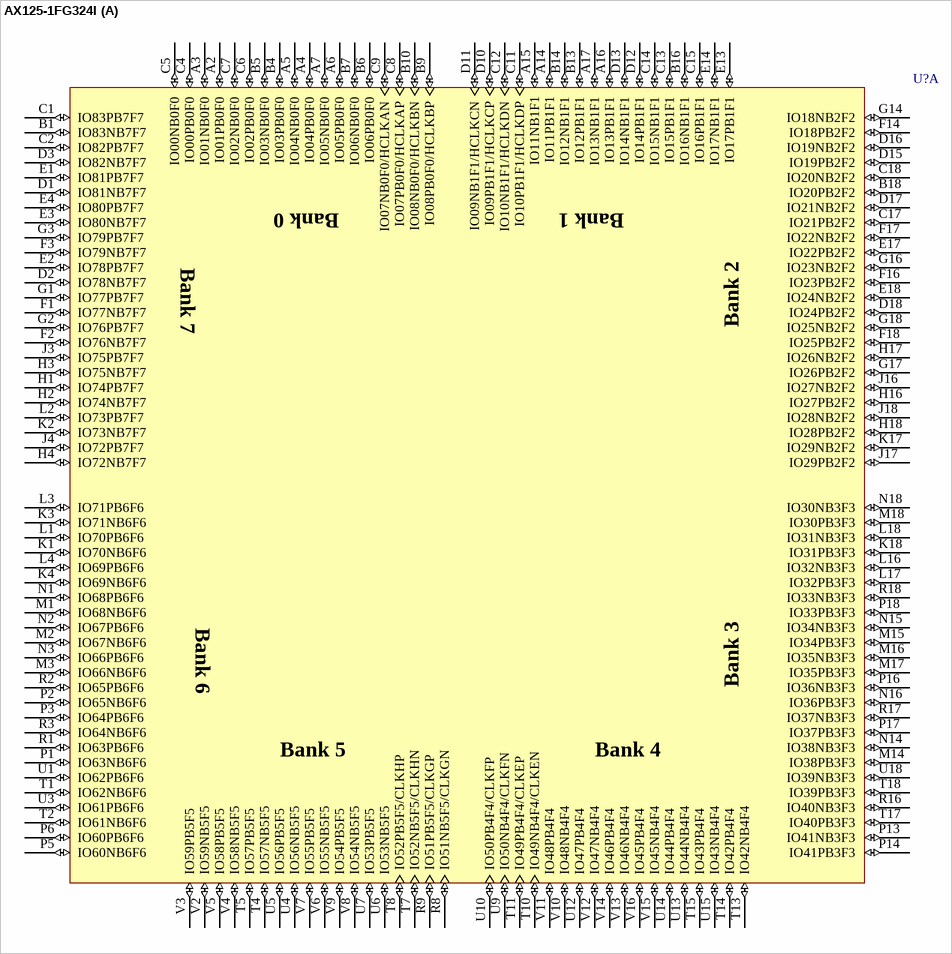
[diagram p7: symbol AX125-1FG324I]

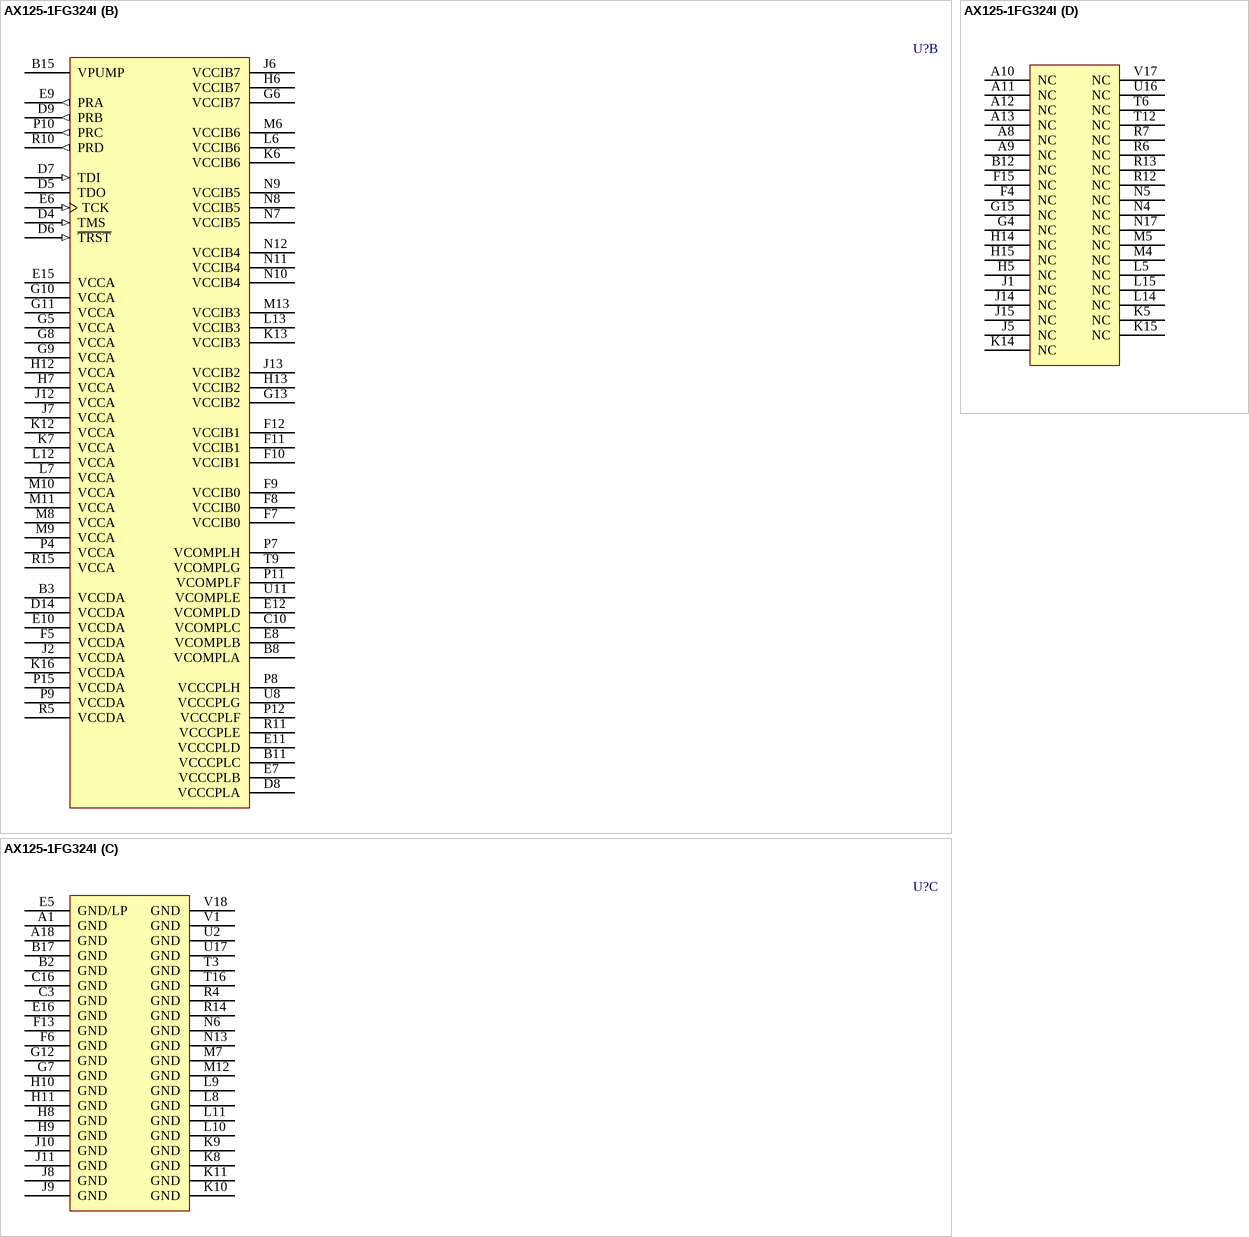
[diagram p8: symbol AX125-1FG324I]

## AX125-1FG324I
designator U?
Axcelerator AX125 FPGA, 168 User I/Os, 324-Pin FBGA, Speed Grade 1, Industrial Grade; DatasheetVersion: v2.8, Oct-2009; PackageVersion: rev39, Aug-2010; PackageReference: FG324; PackageDescription: 324-Ball Fine Pitch Plastic Ball Grid Array (FG324); Code_JEDEC: MS-034-AAG-1; Code_IPC: BGA100P18X18-324; ComponentLink1Description: Manufacturer URL; ComponentLink1URL: http://www.actel.com/; ComponentLink2Description: Axcelerator Datasheet; ComponentLink2URL: http://www.actel.com/documents/AX_DS.pdf; ComponentLink3Description: Package Mechanical Drawings; ComponentLink3URL: http://www.actel.com/documents/PckgMechDrwngs.pdf; ComponentLink4Description: Axcelerator Documents; ComponentLink4URL: http://www.actel.com/products/axcelerator/docs.aspx
footprint FG324 (BGA, 324-Leads, Body 19x19mm, Pitch 1mm)
part A pins: A2 IO01PB0F0 (io), A3 IO01NB0F0 (io), A4 IO04PB0F0 (io), A5 IO04NB0F0 (io), A6 IO05PB0F0 (io), A7 IO05NB0F0 (io), A14 IO11PB1F1 (io), A15 IO11NB1F1 (io), A16 IO13PB1F1 (io), A17 IO13NB1F1 (io), B1 IO83NB7F7 (io), B4 IO03PB0F0 (io), B5 IO03NB0F0 (io), B6 IO06PB0F0 (io), B7 IO06NB0F0 (io), B9 IO08PB0F0/HCLKBP (io), B10 IO08NB0F0/HCLKBN (io), B13 IO12PB1F1 (io), B14 IO12NB1F1 (io), B16 IO16NB1F1 (io), B18 IO20PB2F2 (io), C1 IO83PB7F7 (io), C2 IO82PB7F7 (io), C4 IO00PB0F0 (io), C5 IO00NB0F0 (io), C6 IO02PB0F0 (io), C7 IO02NB0F0 (io), C8 IO07PB0F0/HCLKAP (io), C9 IO07NB0F0/HCLKAN (io), C11 IO10PB1F1/HCLKDP (io), C12 IO10NB1F1/HCLKDN (io), C13 IO15PB1F1 (io), C14 IO15NB1F1 (io), C15 IO16PB1F1 (io), C17 IO21PB2F2 (io), C18 IO20NB2F2 (io), D1 IO81NB7F7 (io), D2 IO78NB7F7 (io), D3 IO82NB7F7 (io), D10 IO09PB1F1/HCLKCP (io), D11 IO09NB1F1/HCLKCN (io), D12 IO14PB1F1 (io), D13 IO14NB1F1 (io), D15 IO19PB2F2 (io), D16 IO19NB2F2 (io), D17 IO21NB2F2 (io), D18 IO24PB2F2 (io), E1 IO81PB7F7 (io), E2 IO78PB7F7 (io), E3 IO80NB7F7 (io), E4 IO80PB7F7 (io), E13 IO17PB1F1 (io), E14 IO17NB1F1 (io), E17 IO22PB2F2 (io), E18 IO24NB2F2 (io), F1 IO77NB7F7 (io), F2 IO76NB7F7 (io), F3 IO79NB7F7 (io), F14 IO18PB2F2 (io), F16 IO23PB2F2 (io), F17 IO22NB2F2 (io), F18 IO25PB2F2 (io), G1 IO77PB7F7 (io), G2 IO76PB7F7 (io), G3 IO79PB7F7 (io), G14 IO18NB2F2 (io), G16 IO23NB2F2 (io), G17 IO26PB2F2 (io), G18 IO25NB2F2 (io), H1 IO74PB7F7 (io), H2 IO74NB7F7 (io), H3 IO75NB7F7 (io), H4 IO72NB7F7 (io), H16 IO27PB2F2 (io), H17 IO26NB2F2 (io), H18 IO28PB2F2 (io), J3 IO75PB7F7 (io), J4 IO72PB7F7 (io), J16 IO27NB2F2 (io), J17 IO29PB2F2 (io), J18 IO28NB2F2 (io), K1 IO70NB6F6 (io), K2 IO73NB7F7 (io), K3 IO71NB6F6 (io), K4 IO69NB6F6 (io), K17 IO29NB2F2 (io), K18 IO31PB3F3 (io), L1 IO70PB6F6 (io), L2 IO73PB7F7 (io), L3 IO71PB6F6 (io), L4 IO69PB6F6 (io), L16 IO32NB3F3 (io), L17 IO32PB3F3 (io), L18 IO31NB3F3 (io), M1 IO68NB6F6 (io), M2 IO67NB6F6 (io), M3 IO66NB6F6 (io), M14 IO38PB3F3 (io), M15 IO34PB3F3 (io), M16 IO35NB3F3 (io), M17 IO35PB3F3 (io), M18 IO30PB3F3 (io), N1 IO68PB6F6 (io), N2 IO67PB6F6 (io), N3 IO66PB6F6 (io), N14 IO38NB3F3 (io), N15 IO34NB3F3 (io), N16 IO36PB3F3 (io), N18 IO30NB3F3 (io), P1 IO63NB6F6 (io), P2 IO65NB6F6 (io), P3 IO64PB6F6 (io), P5 IO60NB6F6 (io), P6 IO60PB6F6 (io), P13 IO41NB3F3 (io), P14 IO41PB3F3 (io), P16 IO36NB3F3 (io), P17 IO37PB3F3 (io), P18 IO33PB3F3 (io), R1 IO63PB6F6 (io), R2 IO65PB6F6 (io), R3 IO64NB6F6 (io), R8 IO51NB5F5/CLKGN (io), R9 IO51PB5F5/CLKGP (io), R16 IO40NB3F3 (io), R17 IO37NB3F3 (io), R18 IO33NB3F3 (io), T1 IO62NB6F6 (io), T2 IO61NB6F6 (io), T4 IO57NB5F5 (io), T5 IO57PB5F5 (io), T7 IO52NB5F5/CLKHN (io), T8 IO52PB5F5/CLKHP (io), T10 IO49NB4F4/CLKEN (io), T11 IO49PB4F4/CLKEP (io), T13 IO42NB4F4 (io), T14 IO42PB4F4 (io), T15 IO43PB4F4 (io), T17 IO40PB3F3 (io), T18 IO39PB3F3 (io), U1 IO62PB6F6 (io), U3 IO61PB6F6 (io), U4 IO56NB5F5 (io), U5 IO56PB5F5 (io), U6 IO53NB5F5 (io), U7 IO53PB5F5 (io), U9 IO50NB4F4/CLKFN (io), U10 IO50PB4F4/CLKFP (io), U12 IO47PB4F4 (io), U13 IO44NB4F4 (io), U14 IO44PB4F4 (io), U15 IO43NB4F4 (io), U18 IO39NB3F3 (io), V2 IO59NB5F5 (io), V3 IO59PB5F5 (io), V4 IO58NB5F5 (io), V5 IO58PB5F5 (io), V6 IO55NB5F5 (io), V7 IO55PB5F5 (io), V8 IO54NB5F5 (io), V9 IO54PB5F5 (io), V10 IO48NB4F4 (io), V11 IO48PB4F4 (io), V12 IO47NB4F4 (io), V13 IO46NB4F4 (io), V14 IO46PB4F4 (io), V15 IO45NB4F4 (io), V16 IO45PB4F4 (io)
part B pins: B3 VCCDA (power), B8 VCOMPLA (power), B11 VCCCPLC (power), B15 VPUMP (power), C10 VCOMPLC (power), D4 TMS (in), D5 TDO (hiz), D6 ~{TRST} (in), D7 TDI (in), D8 VCCCPLA (power), D9 PRB (out), D14 VCCDA (power), E6 TCK (in), E7 VCCCPLB (power), E8 VCOMPLB (power), E9 PRA (out), E10 VCCDA (power), E11 VCCCPLD (power), E12 VCOMPLD (power), E15 VCCA (power), F5 VCCDA (power), F7 VCCIB0 (power), F8 VCCIB0 (power), F9 VCCIB0 (power), F10 VCCIB1 (power), F11 VCCIB1 (power), F12 VCCIB1 (power), G5 VCCA (power), G6 VCCIB7 (power), G8 VCCA (power), G9 VCCA (power), G10 VCCA (power), G11 VCCA (power), G13 VCCIB2 (power), H6 VCCIB7 (power), H7 VCCA (power), H12 VCCA (power), H13 VCCIB2 (power), J2 VCCDA (power), J6 VCCIB7 (power), J7 VCCA (power), J12 VCCA (power), J13 VCCIB2 (power), K6 VCCIB6 (power), K7 VCCA (power), K12 VCCA (power), K13 VCCIB3 (power), K16 VCCDA (power), L6 VCCIB6 (power), L7 VCCA (power), L12 VCCA (power), L13 VCCIB3 (power), M6 VCCIB6 (power), M8 VCCA (power), M9 VCCA (power), M10 VCCA (power), M11 VCCA (power), M13 VCCIB3 (power), N7 VCCIB5 (power), N8 VCCIB5 (power), N9 VCCIB5 (power), N10 VCCIB4 (power), N11 VCCIB4 (power), N12 VCCIB4 (power), P4 VCCA (power), P7 VCOMPLH (power), P8 VCCCPLH (power), P9 VCCDA (power), P10 PRC (out), P11 VCOMPLF (power), P12 VCCCPLF (power), P15 VCCDA (power), R5 VCCDA (power), R10 PRD (out), R11 VCCCPLE (power), R15 VCCA (power), T9 VCOMPLG (power), U8 VCCCPLG (power), U11 VCOMPLE (power)
part C pins: A1 GND (power), A18 GND (power), B2 GND (power), B17 GND (power), C3 GND (power), C16 GND (power), E5 GND/LP (power), E16 GND (power), F6 GND (power), F13 GND (power), G7 GND (power), G12 GND (power), H8 GND (power), H9 GND (power), H10 GND (power), H11 GND (power), J8 GND (power), J9 GND (power), J10 GND (power), J11 GND (power), K8 GND (power), K9 GND (power), K10 GND (power), K11 GND (power), L8 GND (power), L9 GND (power), L10 GND (power), L11 GND (power), M7 GND (power), M12 GND (power), N6 GND (power), N13 GND (power), R4 GND (power), R14 GND (power), T3 GND (power), T16 GND (power), U2 GND (power), U17 GND (power), V1 GND (power), V18 GND (power)
part D pins: A8 NC, A9 NC, A10 NC, A11 NC, A12 NC, A13 NC, B12 NC, F4 NC, F15 NC, G4 NC, G15 NC, H5 NC, H14 NC, H15 NC, J1 NC, J5 NC, J14 NC, J15 NC, K5 NC, K14 NC, K15 NC, L5 NC, L14 NC, L15 NC, M4 NC, M5 NC, N4 NC, N5 NC, N17 NC, R6 NC, R7 NC, R12 NC, R13 NC, T6 NC, T12 NC, U16 NC, V17 NC
part A text: Bank 0; Bank 1; Bank 7; Bank 2; Bank 6; Bank 3; Bank 5; Bank 4

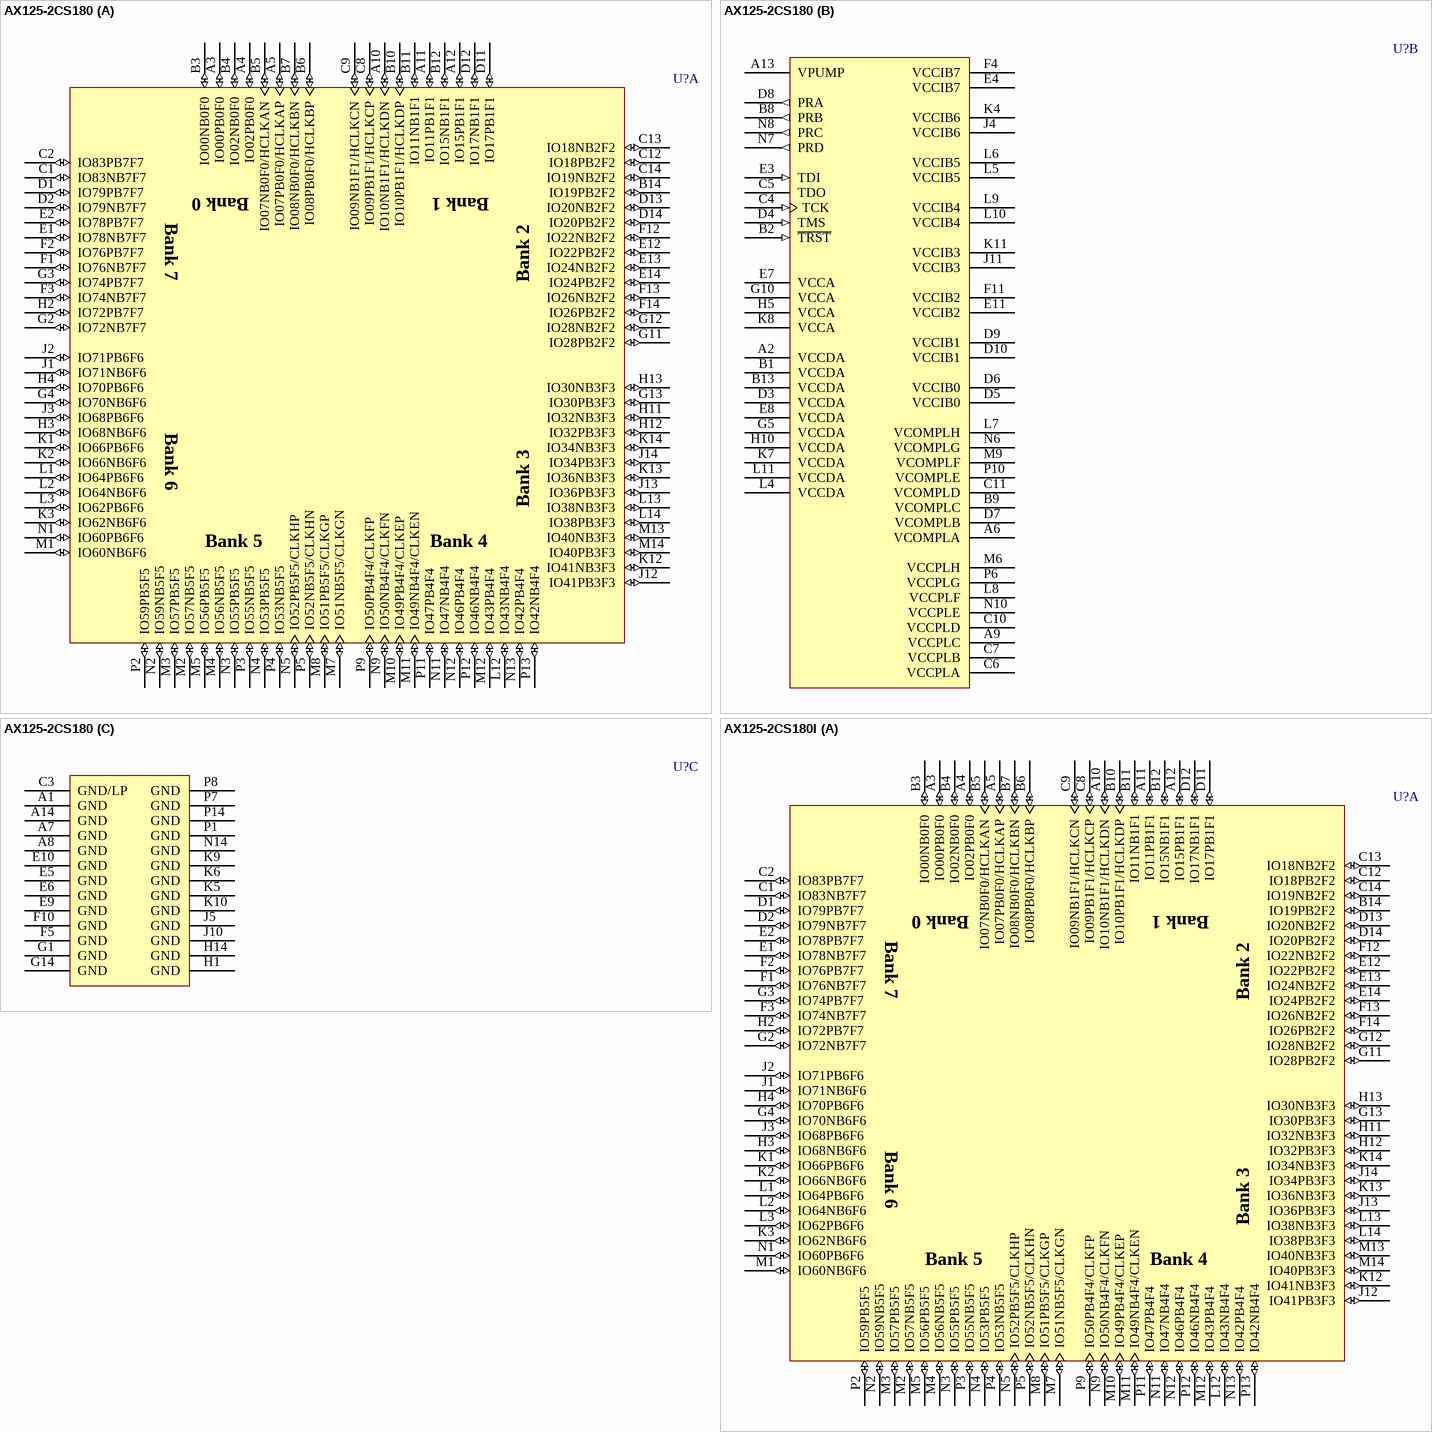
[diagram p9: symbols AX125-2CS180 to AX125-2CS180I]

## AX125-2CS180
designator U?
Axcelerator AX125 FPGA, 98 User I/Os, 180-Pin CSP, Speed Grade 2, Commercial Grade; DatasheetVersion: v2.8, Oct-2009; PackageVersion: ver11.2, Nov-2009; PackageReference: CS180; PackageDescription: 180-Ball Chip Scale Package (CS180); Code_JEDEC: MO-205-BF; ComponentLink1Description: Manufacturer URL; ComponentLink1URL: http://www.actel.com/; ComponentLink2Description: Axcelerator Datasheet; ComponentLink2URL: http://www.actel.com/documents/AX_DS.pdf; ComponentLink3Description: Package Mechanical Drawings; ComponentLink3URL: http://www.actel.com/documents/PckgMechDrwngs.pdf; ComponentLink4Description: Axcelerator Documents; ComponentLink4URL: http://www.actel.com/products/axcelerator/docs.aspx
footprint CS180 (BGA, 180-Leads, Body 13x13mm, Pitch 0.8mm)
part A pins: A3 IO00PB0F0 (io), A4 IO02PB0F0 (io), A5 IO07PB0F0/HCLKAP (io), A10 IO10NB1F1/HCLKDN (io), A11 IO11PB1F1 (io), A12 IO15PB1F1 (io), B3 IO00NB0F0 (io), B4 IO02NB0F0 (io), B5 IO07NB0F0/HCLKAN (io), B6 IO08PB0F0/HCLKBP (io), B7 IO08NB0F0/HCLKBN (io), B10 IO10PB1F1/HCLKDP (io), B11 IO11NB1F1 (io), B12 IO15NB1F1 (io), B14 IO19PB2F2 (io), C1 IO83NB7F7 (io), C2 IO83PB7F7 (io), C8 IO09PB1F1/HCLKCP (io), C9 IO09NB1F1/HCLKCN (io), C12 IO18PB2F2 (io), C13 IO18NB2F2 (io), C14 IO19NB2F2 (io), D1 IO79PB7F7 (io), D2 IO79NB7F7 (io), D11 IO17PB1F1 (io), D12 IO17NB1F1 (io), D13 IO20NB2F2 (io), D14 IO20PB2F2 (io), E1 IO78NB7F7 (io), E2 IO78PB7F7 (io), E12 IO22PB2F2 (io), E13 IO24NB2F2 (io), E14 IO24PB2F2 (io), F1 IO76NB7F7 (io), F2 IO76PB7F7 (io), F3 IO74NB7F7 (io), F12 IO22NB2F2 (io), F13 IO26NB2F2 (io), F14 IO26PB2F2 (io), G2 IO72NB7F7 (io), G3 IO74PB7F7 (io), G4 IO70NB6F6 (io), G11 IO28PB2F2 (io), G12 IO28NB2F2 (io), G13 IO30PB3F3 (io), H2 IO72PB7F7 (io), H3 IO68NB6F6 (io), H4 IO70PB6F6 (io), H11 IO32NB3F3 (io), H12 IO32PB3F3 (io), H13 IO30NB3F3 (io), J1 IO71NB6F6 (io), J2 IO71PB6F6 (io), J3 IO68PB6F6 (io), J12 IO41PB3F3 (io), J13 IO36PB3F3 (io), J14 IO34PB3F3 (io), K1 IO66PB6F6 (io), K2 IO66NB6F6 (io), K3 IO62NB6F6 (io), K12 IO41NB3F3 (io), K13 IO36NB3F3 (io), K14 IO34NB3F3 (io), L1 IO64PB6F6 (io), L2 IO64NB6F6 (io), L3 IO62PB6F6 (io), L12 IO43NB4F4 (io), L13 IO38NB3F3 (io), L14 IO38PB3F3 (io), M1 IO60NB6F6 (io), M2 IO57NB5F5 (io), M3 IO57PB5F5 (io), M4 IO56NB5F5 (io), M5 IO56PB5F5 (io), M7 IO51NB5F5/CLKGN (io), M8 IO51PB5F5/CLKGP (io), M10 IO49PB4F4/CLKEP (io), M11 IO49NB4F4/CLKEN (io), M12 IO43PB4F4 (io), M13 IO40NB3F3 (io), M14 IO40PB3F3 (io), N1 IO60PB6F6 (io), N2 IO59NB5F5 (io), N3 IO55PB5F5 (io), N4 IO53PB5F5 (io), N5 IO52PB5F5/CLKHP (io), N9 IO50NB4F4/CLKFN (io), N11 IO47NB4F4 (io), N12 IO46PB4F4 (io), N13 IO42PB4F4 (io), P2 IO59PB5F5 (io), P3 IO55NB5F5 (io), P4 IO53NB5F5 (io), P5 IO52NB5F5/CLKHN (io), P9 IO50PB4F4/CLKFP (io), P11 IO47PB4F4 (io), P12 IO46NB4F4 (io), P13 IO42NB4F4 (io)
part B pins: A2 VCCDA (power), A6 VCOMPLA (power), A9 VCCPLC (power), A13 VPUMP (power), B1 VCCDA (power), B2 ~{TRST} (in), B8 PRB (out), B9 VCOMPLC (power), B13 VCCDA (power), C4 TCK (in), C5 TDO (hiz), C6 VCCPLA (power), C7 VCCPLB (power), C10 VCCPLD (power), C11 VCOMPLD (power), D3 VCCDA (power), D4 TMS (in), D5 VCCIB0 (power), D6 VCCIB0 (power), D7 VCOMPLB (power), D8 PRA (out), D9 VCCIB1 (power), D10 VCCIB1 (power), E3 TDI (in), E4 VCCIB7 (power), E7 VCCA (power), E8 VCCDA (power), E11 VCCIB2 (power), F4 VCCIB7 (power), F11 VCCIB2 (power), G5 VCCDA (power), G10 VCCA (power), H5 VCCA (power), H10 VCCDA (power), J4 VCCIB6 (power), J11 VCCIB3 (power), K4 VCCIB6 (power), K7 VCCDA (power), K8 VCCA (power), K11 VCCIB3 (power), L4 VCCDA (power), L5 VCCIB5 (power), L6 VCCIB5 (power), L7 VCOMPLH (power), L8 VCCPLF (power), L9 VCCIB4 (power), L10 VCCIB4 (power), L11 VCCDA (power), M6 VCCPLH (power), M9 VCOMPLF (power), N6 VCOMPLG (power), N7 PRD (out), N8 PRC (out), N10 VCCPLE (power), P6 VCCPLG (power), P10 VCOMPLE (power)
part C pins: A1 GND (power), A7 GND (power), A8 GND (power), A14 GND (power), C3 GND/LP (power), E5 GND (power), E6 GND (power), E9 GND (power), E10 GND (power), F5 GND (power), F10 GND (power), G1 GND (power), G14 GND (power), H1 GND (power), H14 GND (power), J5 GND (power), J10 GND (power), K5 GND (power), K6 GND (power), K9 GND (power), K10 GND (power), N14 GND (power), P1 GND (power), P7 GND (power), P8 GND (power), P14 GND (power)
part A text: Bank 0; Bank 1; Bank 7; Bank 2; Bank 6; Bank 3; Bank 5; Bank 4

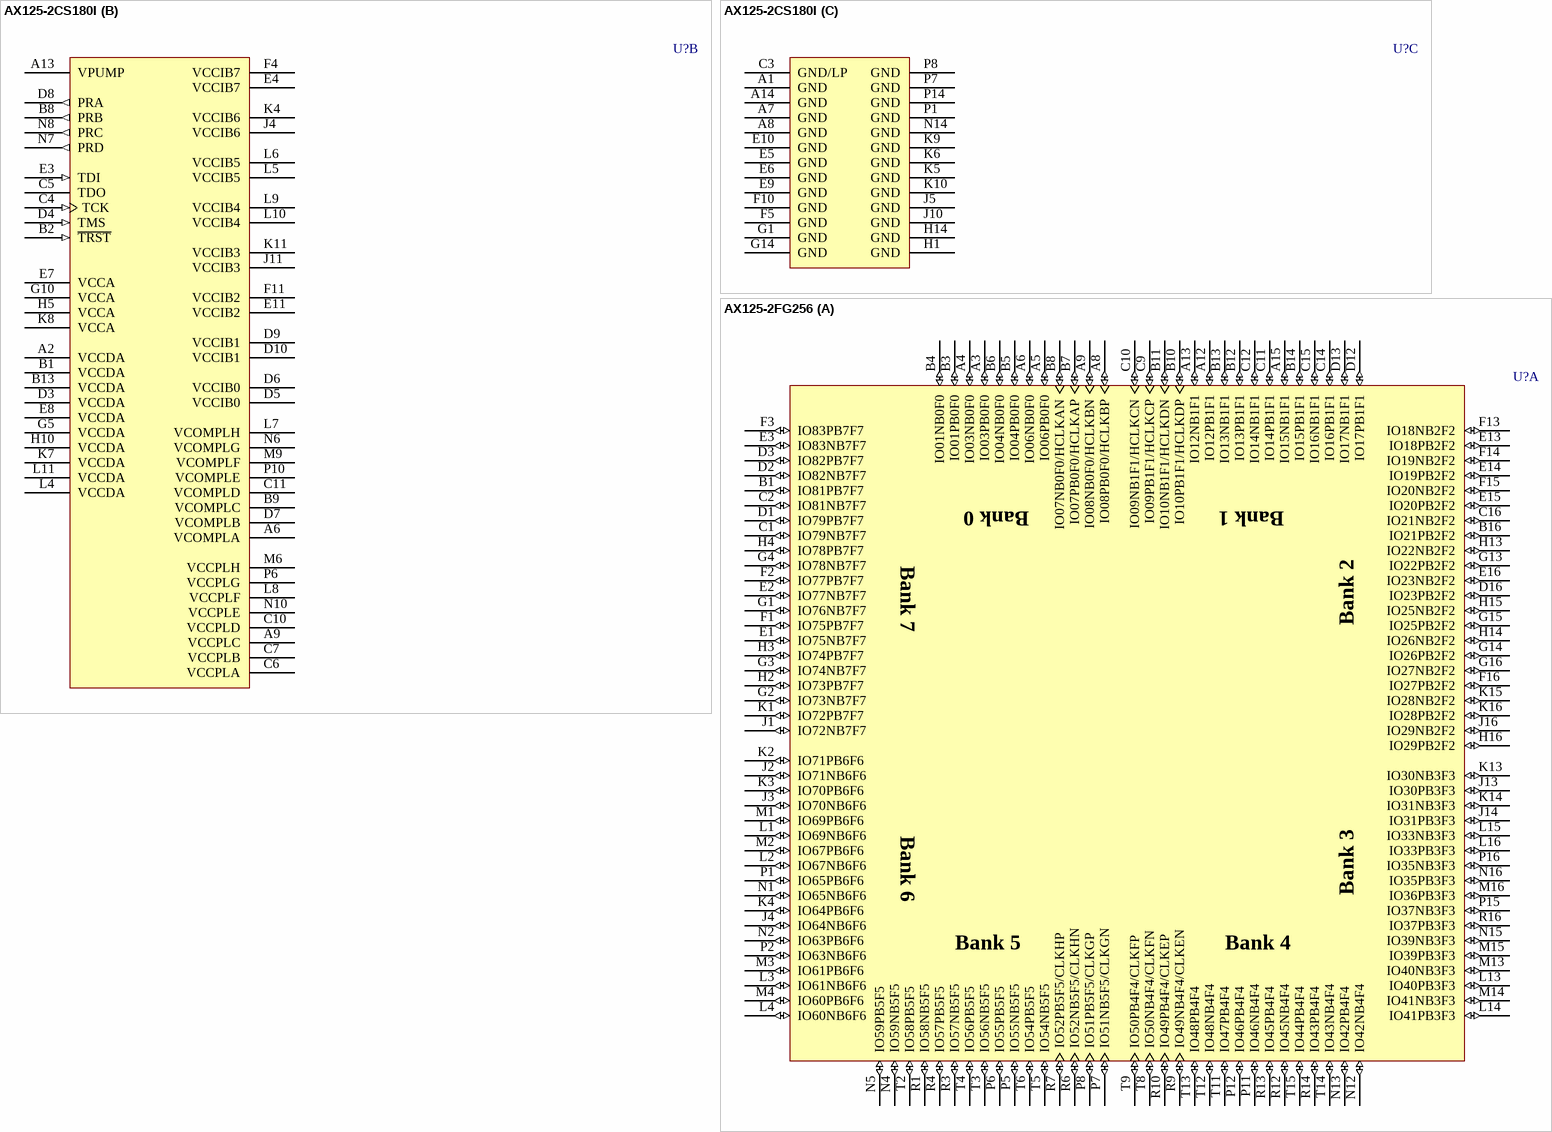
[diagram p10: symbols AX125-2CS180I to AX125-2FG256]

## AX125-2CS180I
designator U?
Axcelerator AX125 FPGA, 98 User I/Os, 180-Pin CSP, Speed Grade 2, Industrial Grade; DatasheetVersion: v2.8, Oct-2009; PackageVersion: ver11.2, Nov-2009; PackageReference: CS180; PackageDescription: 180-Ball Chip Scale Package (CS180); Code_JEDEC: MO-205-BF; ComponentLink1Description: Manufacturer URL; ComponentLink1URL: http://www.actel.com/; ComponentLink2Description: Axcelerator Datasheet; ComponentLink2URL: http://www.actel.com/documents/AX_DS.pdf; ComponentLink3Description: Package Mechanical Drawings; ComponentLink3URL: http://www.actel.com/documents/PckgMechDrwngs.pdf; ComponentLink4Description: Axcelerator Documents; ComponentLink4URL: http://www.actel.com/products/axcelerator/docs.aspx
footprint CS180 (BGA, 180-Leads, Body 13x13mm, Pitch 0.8mm)
part A pins: A3 IO00PB0F0 (io), A4 IO02PB0F0 (io), A5 IO07PB0F0/HCLKAP (io), A10 IO10NB1F1/HCLKDN (io), A11 IO11PB1F1 (io), A12 IO15PB1F1 (io), B3 IO00NB0F0 (io), B4 IO02NB0F0 (io), B5 IO07NB0F0/HCLKAN (io), B6 IO08PB0F0/HCLKBP (io), B7 IO08NB0F0/HCLKBN (io), B10 IO10PB1F1/HCLKDP (io), B11 IO11NB1F1 (io), B12 IO15NB1F1 (io), B14 IO19PB2F2 (io), C1 IO83NB7F7 (io), C2 IO83PB7F7 (io), C8 IO09PB1F1/HCLKCP (io), C9 IO09NB1F1/HCLKCN (io), C12 IO18PB2F2 (io), C13 IO18NB2F2 (io), C14 IO19NB2F2 (io), D1 IO79PB7F7 (io), D2 IO79NB7F7 (io), D11 IO17PB1F1 (io), D12 IO17NB1F1 (io), D13 IO20NB2F2 (io), D14 IO20PB2F2 (io), E1 IO78NB7F7 (io), E2 IO78PB7F7 (io), E12 IO22PB2F2 (io), E13 IO24NB2F2 (io), E14 IO24PB2F2 (io), F1 IO76NB7F7 (io), F2 IO76PB7F7 (io), F3 IO74NB7F7 (io), F12 IO22NB2F2 (io), F13 IO26NB2F2 (io), F14 IO26PB2F2 (io), G2 IO72NB7F7 (io), G3 IO74PB7F7 (io), G4 IO70NB6F6 (io), G11 IO28PB2F2 (io), G12 IO28NB2F2 (io), G13 IO30PB3F3 (io), H2 IO72PB7F7 (io), H3 IO68NB6F6 (io), H4 IO70PB6F6 (io), H11 IO32NB3F3 (io), H12 IO32PB3F3 (io), H13 IO30NB3F3 (io), J1 IO71NB6F6 (io), J2 IO71PB6F6 (io), J3 IO68PB6F6 (io), J12 IO41PB3F3 (io), J13 IO36PB3F3 (io), J14 IO34PB3F3 (io), K1 IO66PB6F6 (io), K2 IO66NB6F6 (io), K3 IO62NB6F6 (io), K12 IO41NB3F3 (io), K13 IO36NB3F3 (io), K14 IO34NB3F3 (io), L1 IO64PB6F6 (io), L2 IO64NB6F6 (io), L3 IO62PB6F6 (io), L12 IO43NB4F4 (io), L13 IO38NB3F3 (io), L14 IO38PB3F3 (io), M1 IO60NB6F6 (io), M2 IO57NB5F5 (io), M3 IO57PB5F5 (io), M4 IO56NB5F5 (io), M5 IO56PB5F5 (io), M7 IO51NB5F5/CLKGN (io), M8 IO51PB5F5/CLKGP (io), M10 IO49PB4F4/CLKEP (io), M11 IO49NB4F4/CLKEN (io), M12 IO43PB4F4 (io), M13 IO40NB3F3 (io), M14 IO40PB3F3 (io), N1 IO60PB6F6 (io), N2 IO59NB5F5 (io), N3 IO55PB5F5 (io), N4 IO53PB5F5 (io), N5 IO52PB5F5/CLKHP (io), N9 IO50NB4F4/CLKFN (io), N11 IO47NB4F4 (io), N12 IO46PB4F4 (io), N13 IO42PB4F4 (io), P2 IO59PB5F5 (io), P3 IO55NB5F5 (io), P4 IO53NB5F5 (io), P5 IO52NB5F5/CLKHN (io), P9 IO50PB4F4/CLKFP (io), P11 IO47PB4F4 (io), P12 IO46NB4F4 (io), P13 IO42NB4F4 (io)
part B pins: A2 VCCDA (power), A6 VCOMPLA (power), A9 VCCPLC (power), A13 VPUMP (power), B1 VCCDA (power), B2 ~{TRST} (in), B8 PRB (out), B9 VCOMPLC (power), B13 VCCDA (power), C4 TCK (in), C5 TDO (hiz), C6 VCCPLA (power), C7 VCCPLB (power), C10 VCCPLD (power), C11 VCOMPLD (power), D3 VCCDA (power), D4 TMS (in), D5 VCCIB0 (power), D6 VCCIB0 (power), D7 VCOMPLB (power), D8 PRA (out), D9 VCCIB1 (power), D10 VCCIB1 (power), E3 TDI (in), E4 VCCIB7 (power), E7 VCCA (power), E8 VCCDA (power), E11 VCCIB2 (power), F4 VCCIB7 (power), F11 VCCIB2 (power), G5 VCCDA (power), G10 VCCA (power), H5 VCCA (power), H10 VCCDA (power), J4 VCCIB6 (power), J11 VCCIB3 (power), K4 VCCIB6 (power), K7 VCCDA (power), K8 VCCA (power), K11 VCCIB3 (power), L4 VCCDA (power), L5 VCCIB5 (power), L6 VCCIB5 (power), L7 VCOMPLH (power), L8 VCCPLF (power), L9 VCCIB4 (power), L10 VCCIB4 (power), L11 VCCDA (power), M6 VCCPLH (power), M9 VCOMPLF (power), N6 VCOMPLG (power), N7 PRD (out), N8 PRC (out), N10 VCCPLE (power), P6 VCCPLG (power), P10 VCOMPLE (power)
part C pins: A1 GND (power), A7 GND (power), A8 GND (power), A14 GND (power), C3 GND/LP (power), E5 GND (power), E6 GND (power), E9 GND (power), E10 GND (power), F5 GND (power), F10 GND (power), G1 GND (power), G14 GND (power), H1 GND (power), H14 GND (power), J5 GND (power), J10 GND (power), K5 GND (power), K6 GND (power), K9 GND (power), K10 GND (power), N14 GND (power), P1 GND (power), P7 GND (power), P8 GND (power), P14 GND (power)
part A text: Bank 0; Bank 1; Bank 7; Bank 2; Bank 6; Bank 3; Bank 5; Bank 4

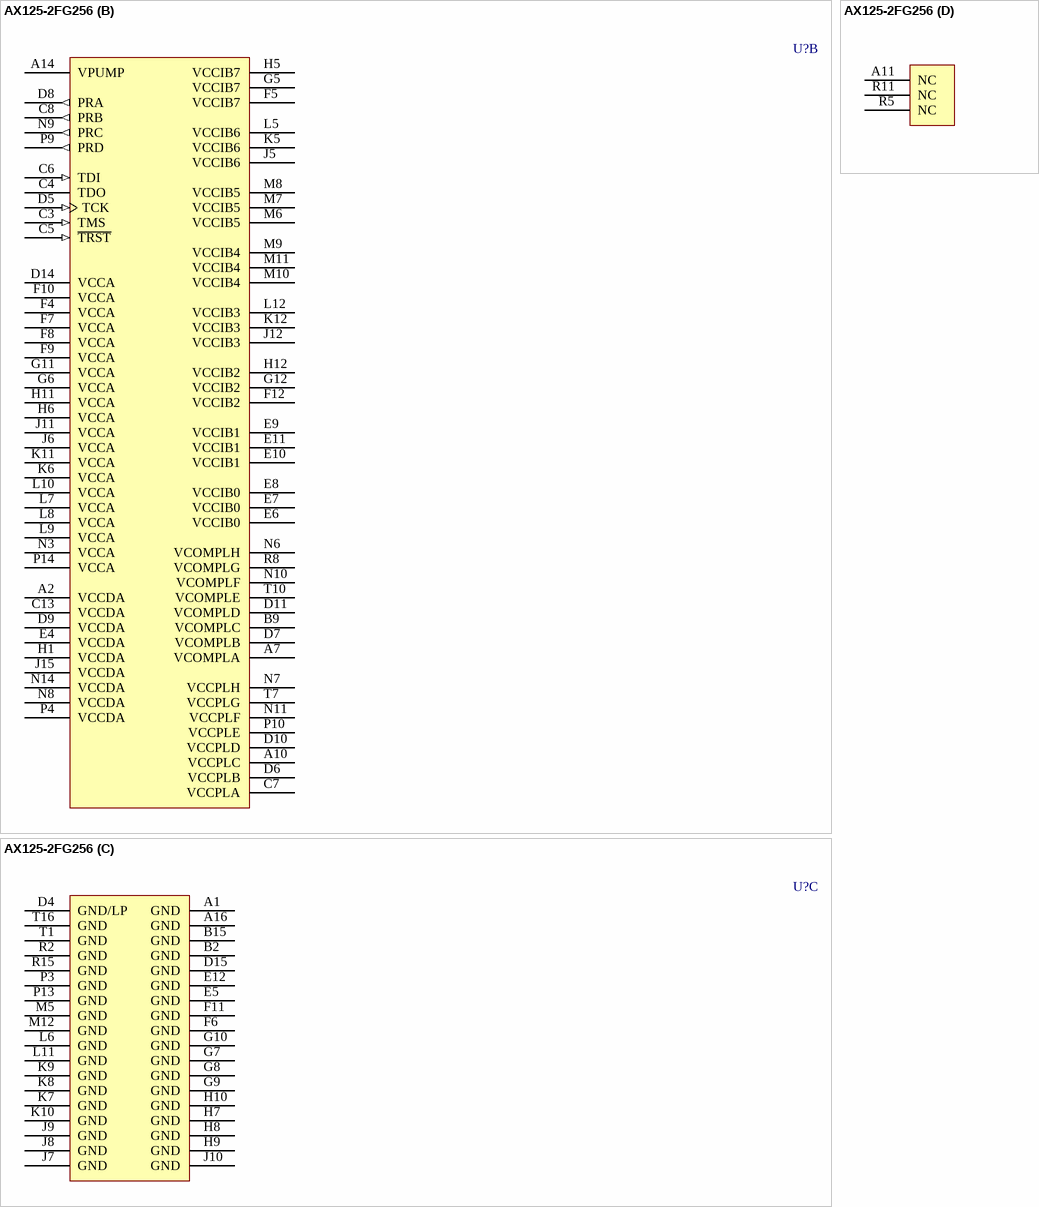
[diagram p11: symbol AX125-2FG256]

## AX125-2FG256
designator U?
Axcelerator AX125 FPGA, 138 User I/Os, 256-Pin FBGA, Speed Grade 2, Commercial Grade; DatasheetVersion: v2.8, Oct-2009; PackageVersion: rev39, Aug-2010; PackageReference: FG256; PackageDescription: 256-Ball Fine Pitch Plastic Ball Grid Array 1.00 mm Pitch (FG256); Code_JEDEC: MO-192-DAF-1; ComponentLink1Description: Manufacturer URL; ComponentLink1URL: http://www.actel.com/; ComponentLink2Description: Axcelerator Datasheet; ComponentLink2URL: http://www.actel.com/documents/AX_DS.pdf; ComponentLink3Description: Package Mechanical Drawings; ComponentLink3URL: http://www.actel.com/documents/PckgMechDrwngs.pdf; ComponentLink4Description: Axcelerator Documents; ComponentLink4URL: http://www.actel.com/products/axcelerator/docs.aspx
footprint FG256 (BGA, 256-Leads, Body 17x17mm, Pitch 1mm)
part A pins: A3 IO03PB0F0 (io), A4 IO03NB0F0 (io), A5 IO06PB0F0 (io), A6 IO06NB0F0 (io), A8 IO08PB0F0/HCLKBP (io), A9 IO08NB0F0/HCLKBN (io), A12 IO12PB1F1 (io), A13 IO12NB1F1 (io), A15 IO15NB1F1 (io), B1 IO81PB7F7 (io), B3 IO01PB0F0 (io), B4 IO01NB0F0 (io), B5 IO04PB0F0 (io), B6 IO04NB0F0 (io), B7 IO07PB0F0/HCLKAP (io), B8 IO07NB0F0/HCLKAN (io), B10 IO10PB1F1/HCLKDP (io), B11 IO10NB1F1/HCLKDN (io), B12 IO13PB1F1 (io), B13 IO13NB1F1 (io), B14 IO15PB1F1 (io), B16 IO21PB2F2 (io), C1 IO79NB7F7 (io), C2 IO81NB7F7 (io), C9 IO09PB1F1/HCLKCP (io), C10 IO09NB1F1/HCLKCN (io), C11 IO14PB1F1 (io), C12 IO14NB1F1 (io), C14 IO16PB1F1 (io), C15 IO16NB1F1 (io), C16 IO21NB2F2 (io), D1 IO79PB7F7 (io), D2 IO82NB7F7 (io), D3 IO82PB7F7 (io), D12 IO17PB1F1 (io), D13 IO17NB1F1 (io), D16 IO23PB2F2 (io), E1 IO75NB7F7 (io), E2 IO77NB7F7 (io), E3 IO83NB7F7 (io), E13 IO18PB2F2 (io), E14 IO19PB2F2 (io), E15 IO20PB2F2 (io), E16 IO23NB2F2 (io), F1 IO75PB7F7 (io), F2 IO77PB7F7 (io), F3 IO83PB7F7 (io), F13 IO18NB2F2 (io), F14 IO19NB2F2 (io), F15 IO20NB2F2 (io), F16 IO27PB2F2 (io), G1 IO76NB7F7 (io), G2 IO73NB7F7 (io), G3 IO74NB7F7 (io), G4 IO78NB7F7 (io), G13 IO22PB2F2 (io), G14 IO26PB2F2 (io), G15 IO25PB2F2 (io), G16 IO27NB2F2 (io), H2 IO73PB7F7 (io), H3 IO74PB7F7 (io), H4 IO78PB7F7 (io), H13 IO22NB2F2 (io), H14 IO26NB2F2 (io), H15 IO25NB2F2 (io), H16 IO29PB2F2 (io), J1 IO72NB7F7 (io), J2 IO71NB6F6 (io), J3 IO70NB6F6 (io), J4 IO64NB6F6 (io), J13 IO30PB3F3 (io), J14 IO31PB3F3 (io), J16 IO29NB2F2 (io), K1 IO72PB7F7 (io), K2 IO71PB6F6 (io), K3 IO70PB6F6 (io), K4 IO64PB6F6 (io), K13 IO30NB3F3 (io), K14 IO31NB3F3 (io), K15 IO28NB2F2 (io), K16 IO28PB2F2 (io), L1 IO69NB6F6 (io), L2 IO67NB6F6 (io), L3 IO61NB6F6 (io), L4 IO60NB6F6 (io), L13 IO40PB3F3 (io), L14 IO41PB3F3 (io), L15 IO33NB3F3 (io), L16 IO33PB3F3 (io), M1 IO69PB6F6 (io), M2 IO67PB6F6 (io), M3 IO61PB6F6 (io), M4 IO60PB6F6 (io), M13 IO40NB3F3 (io), M14 IO41NB3F3 (io), M15 IO39PB3F3 (io), M16 IO36PB3F3 (io), N1 IO65NB6F6 (io), N2 IO63PB6F6 (io), N4 IO59NB5F5 (io), N5 IO59PB5F5 (io), N12 IO42NB4F4 (io), N13 IO42PB4F4 (io), N15 IO39NB3F3 (io), N16 IO35PB3F3 (io), P1 IO65PB6F6 (io), P2 IO63NB6F6 (io), P5 IO55NB5F5 (io), P6 IO55PB5F5 (io), P7 IO51NB5F5/CLKGN (io), P8 IO51PB5F5/CLKGP (io), P11 IO46NB4F4 (io), P12 IO46PB4F4 (io), P15 IO37NB3F3 (io), P16 IO35NB3F3 (io), R1 IO58NB5F5 (io), R3 IO57NB5F5 (io), R4 IO57PB5F5 (io), R6 IO52NB5F5/CLKHN (io), R7 IO52PB5F5/CLKHP (io), R9 IO49NB4F4/CLKEN (io), R10 IO49PB4F4/CLKEP (io), R12 IO45NB4F4 (io), R13 IO45PB4F4 (io), R14 IO43PB4F4 (io), R16 IO37PB3F3 (io), T2 IO58PB5F5 (io), T3 IO56NB5F5 (io), T4 IO56PB5F5 (io), T5 IO54NB5F5 (io), T6 IO54PB5F5 (io), T8 IO50NB4F4/CLKFN (io), T9 IO50PB4F4/CLKFP (io), T11 IO47PB4F4 (io), T12 IO48NB4F4 (io), T13 IO48PB4F4 (io), T14 IO43NB4F4 (io), T15 IO44PB4F4 (io)
part B pins: A2 VCCDA (power), A7 VCOMPLA (power), A10 VCCPLC (power), A14 VPUMP (power), B9 VCOMPLC (power), C3 TMS (in), C4 TDO (hiz), C5 ~{TRST} (in), C6 TDI (in), C7 VCCPLA (power), C8 PRB (out), C13 VCCDA (power), D5 TCK (in), D6 VCCPLB (power), D7 VCOMPLB (power), D8 PRA (out), D9 VCCDA (power), D10 VCCPLD (power), D11 VCOMPLD (power), D14 VCCA (power), E4 VCCDA (power), E6 VCCIB0 (power), E7 VCCIB0 (power), E8 VCCIB0 (power), E9 VCCIB1 (power), E10 VCCIB1 (power), E11 VCCIB1 (power), F4 VCCA (power), F5 VCCIB7 (power), F7 VCCA (power), F8 VCCA (power), F9 VCCA (power), F10 VCCA (power), F12 VCCIB2 (power), G5 VCCIB7 (power), G6 VCCA (power), G11 VCCA (power), G12 VCCIB2 (power), H1 VCCDA (power), H5 VCCIB7 (power), H6 VCCA (power), H11 VCCA (power), H12 VCCIB2 (power), J5 VCCIB6 (power), J6 VCCA (power), J11 VCCA (power), J12 VCCIB3 (power), J15 VCCDA (power), K5 VCCIB6 (power), K6 VCCA (power), K11 VCCA (power), K12 VCCIB3 (power), L5 VCCIB6 (power), L7 VCCA (power), L8 VCCA (power), L9 VCCA (power), L10 VCCA (power), L12 VCCIB3 (power), M6 VCCIB5 (power), M7 VCCIB5 (power), M8 VCCIB5 (power), M9 VCCIB4 (power), M10 VCCIB4 (power), M11 VCCIB4 (power), N3 VCCA (power), N6 VCOMPLH (power), N7 VCCPLH (power), N8 VCCDA (power), N9 PRC (out), N10 VCOMPLF (power), N11 VCCPLF (power), N14 VCCDA (power), P4 VCCDA (power), P9 PRD (out), P10 VCCPLE (power), P14 VCCA (power), R8 VCOMPLG (power), T7 VCCPLG (power), T10 VCOMPLE (power)
part C pins: A1 GND (power), A16 GND (power), B2 GND (power), B15 GND (power), D4 GND/LP (power), D15 GND (power), E5 GND (power), E12 GND (power), F6 GND (power), F11 GND (power), G7 GND (power), G8 GND (power), G9 GND (power), G10 GND (power), H7 GND (power), H8 GND (power), H9 GND (power), H10 GND (power), J7 GND (power), J8 GND (power), J9 GND (power), J10 GND (power), K7 GND (power), K8 GND (power), K9 GND (power), K10 GND (power), L6 GND (power), L11 GND (power), M5 GND (power), M12 GND (power), P3 GND (power), P13 GND (power), R2 GND (power), R15 GND (power), T1 GND (power), T16 GND (power)
part D pins: A11 NC, R5 NC, R11 NC
part A text: Bank 0; Bank 1; Bank 7; Bank 2; Bank 6; Bank 3; Bank 5; Bank 4

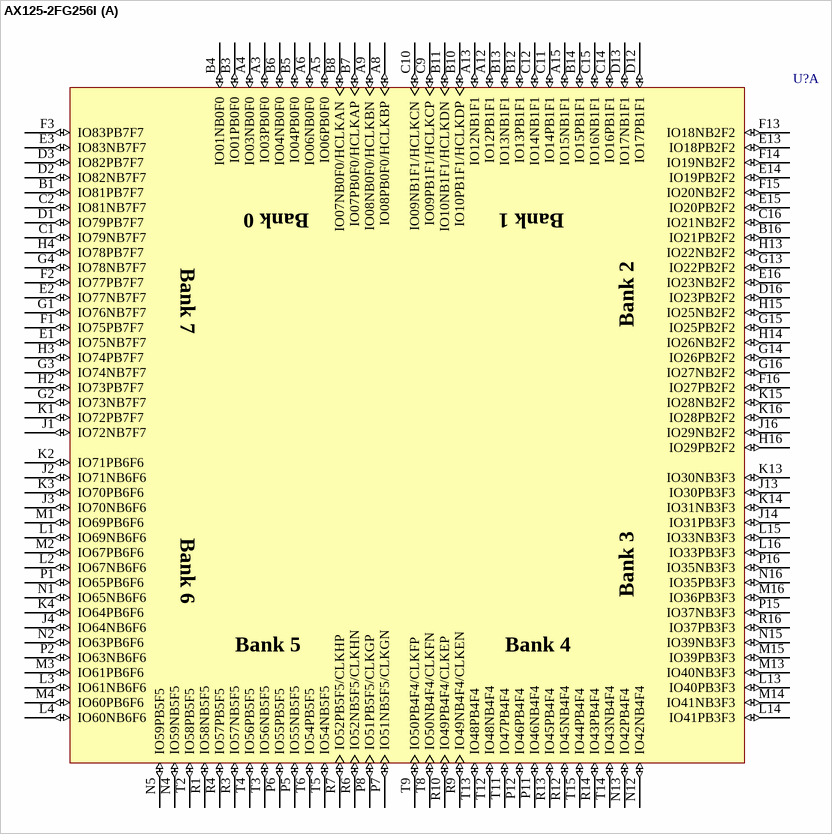
[diagram p12: symbol AX125-2FG256I]

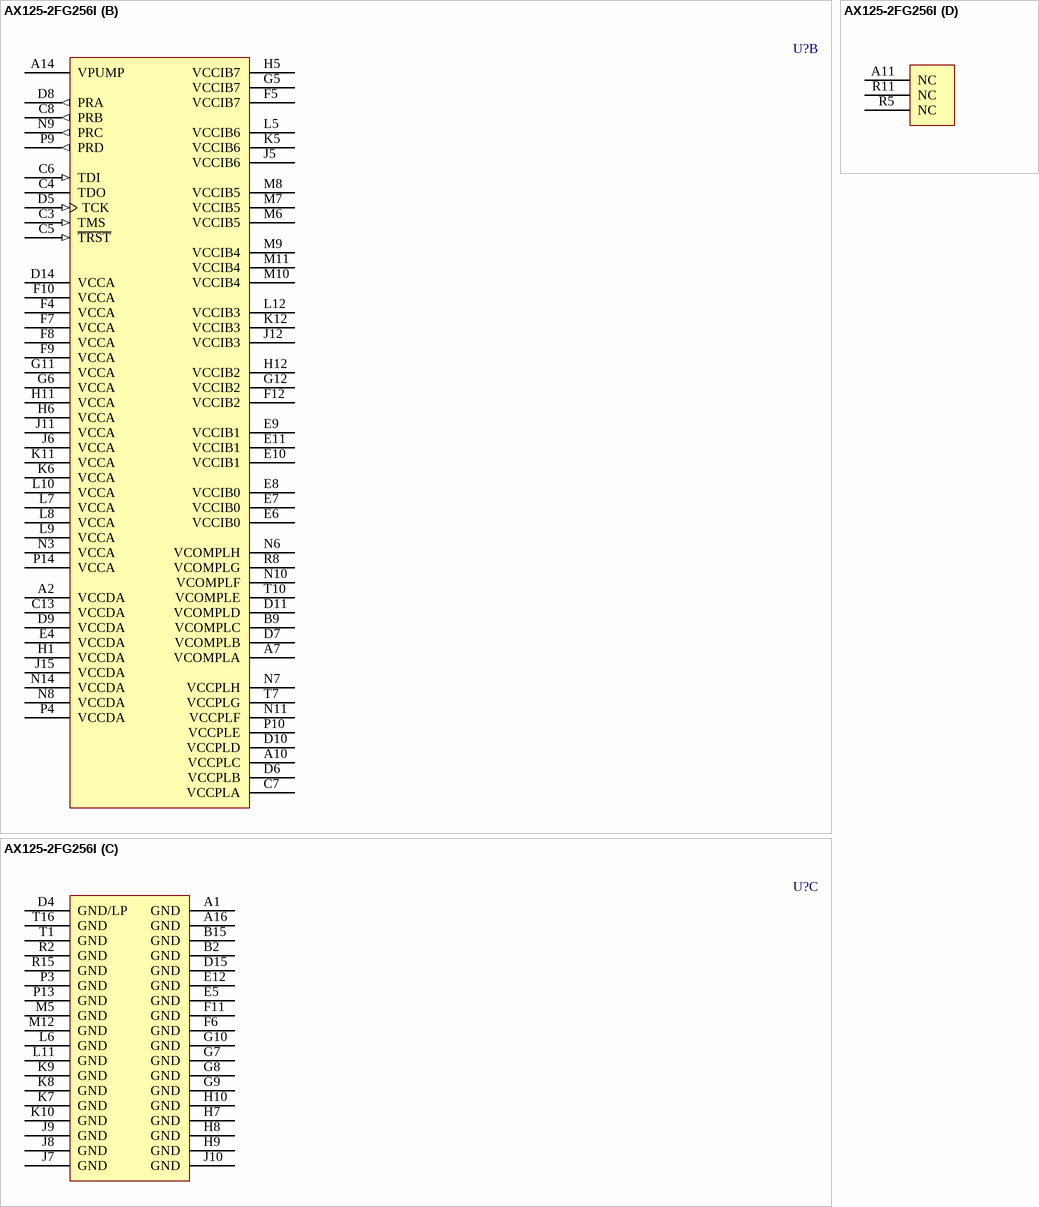
[diagram p13: symbol AX125-2FG256I]